# Altium schematic symbol library MCU_NXP_LPC.SchLib: 105 symbols (part 1 of 3)
Pins are listed as number, name and electrical type; pins without a type are passive.

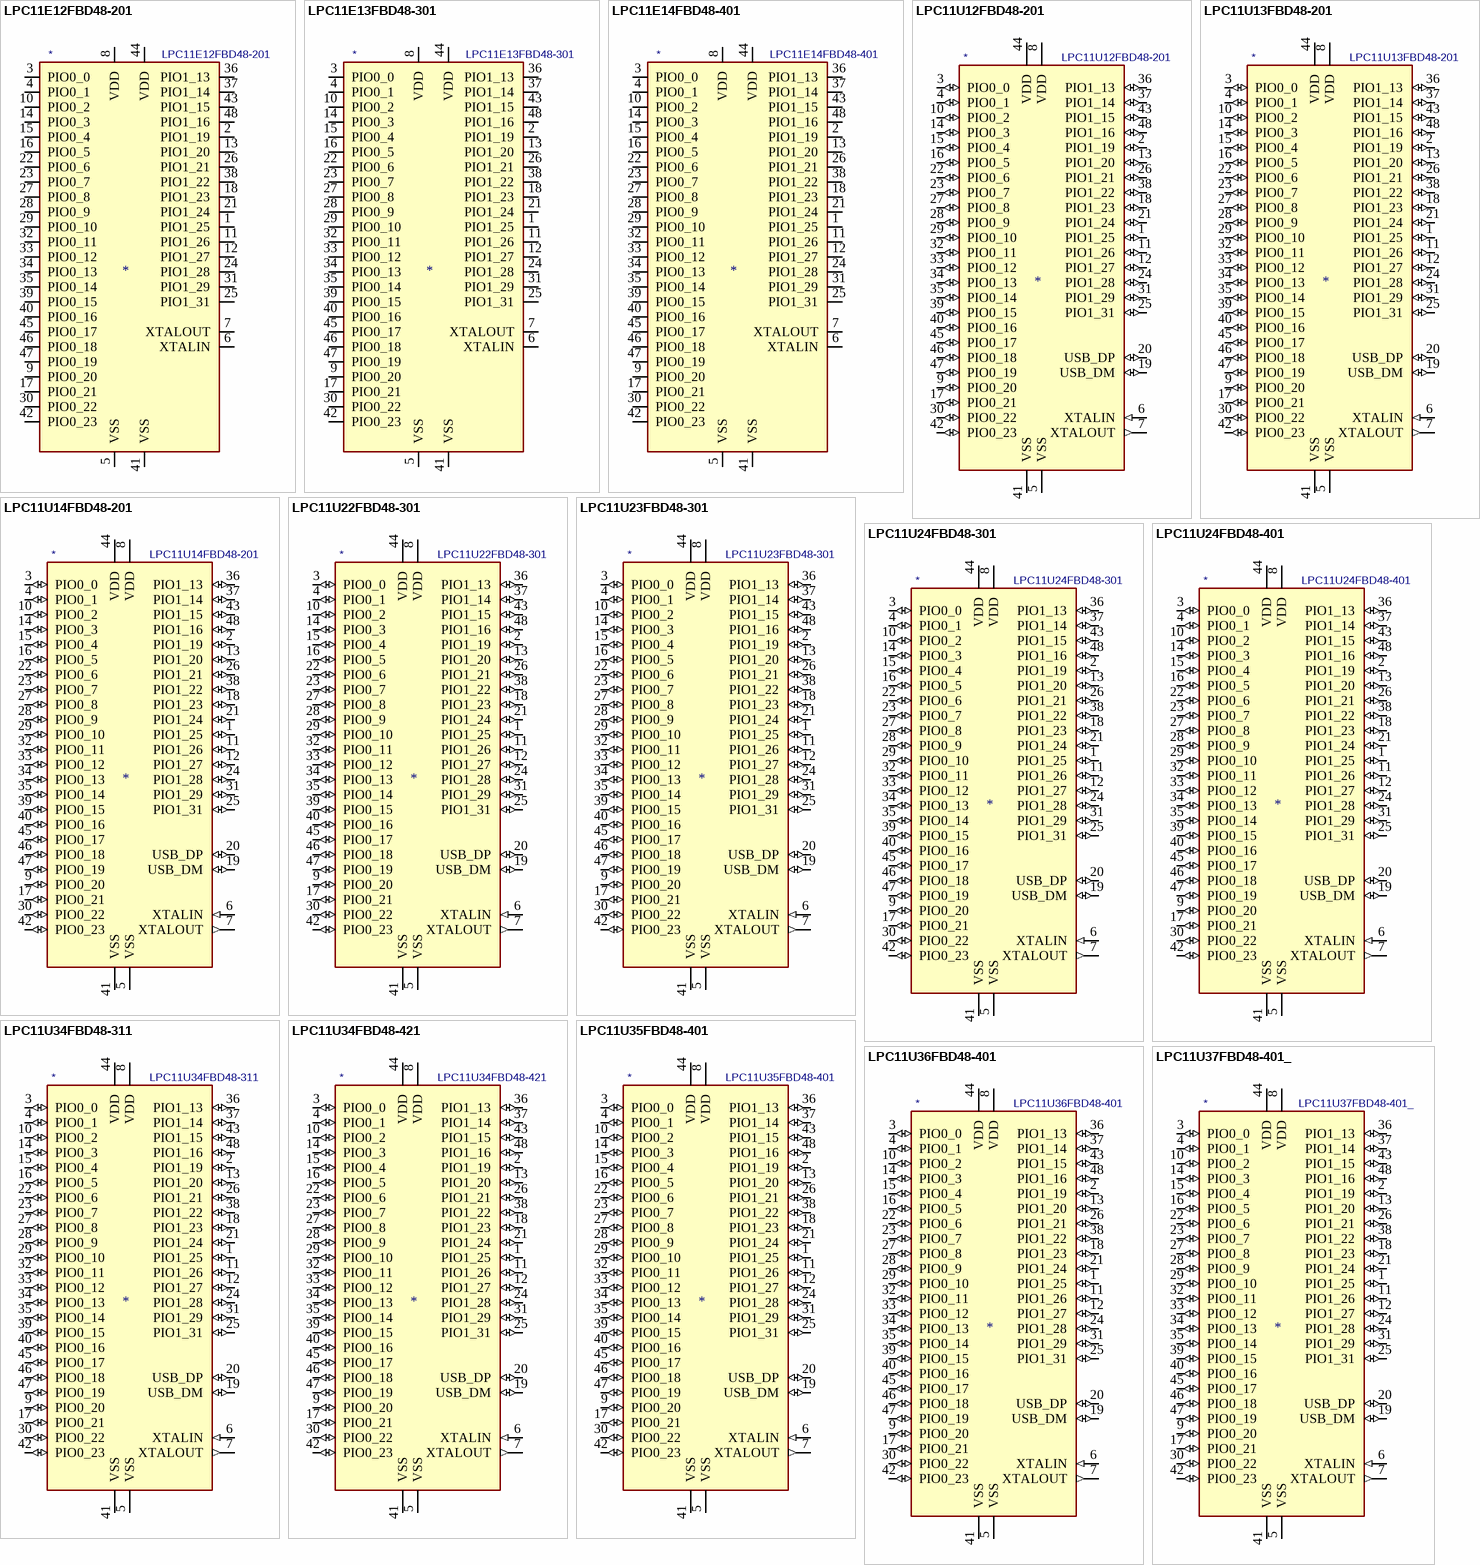
[diagram p0: symbols LPC11E12FBD48-201 to LPC11U37FBD48-401_]

## LPC11E12FBD48-201
designator *  value LPC11E12FBD48-201
ki_keywords: nxp lpc arm microcontroller cortex; ki_description: LPC11E1x, 50MHz Cortex-M0 MCU, 16kB Flash, 1kB EEPROM, 6kB SRAM, USART, I2C, SSP, ADC, Power Profile, LQFP48; ki_fp_filters: *QFP*7x7mm*P0.5mm*; Footprint: Package_QFP:LQFP-48_7x7mm_P0.5mm; Supplier: http://www.nxp.com/documents/data_sheet/LPC11E1X.pdf
footprint LQFP-48_7x7mm_P0.5mm
pins: 1 PIO1_25 (io), 2 PIO1_19 (io), 3 PIO0_0 (io), 4 PIO0_1 (io), 5 VSS (power), 6 XTALIN, 7 XTALOUT, 8 VDD (power), 9 PIO0_20 (io), 10 PIO0_2 (io), 11 PIO1_26 (io), 12 PIO1_27 (io), 13 PIO1_20 (io), 14 PIO0_3 (io), 15 PIO0_4 (oc), 16 PIO0_5 (oc), 17 PIO0_21 (io), 18 PIO1_23 (io), 19 NC (in) hidden, 20 NC (in) hidden, 21 PIO1_24 (io), 22 PIO0_6 (io), 23 PIO0_7 (io), 24 PIO1_28 (io), 25 PIO1_31 (io), 26 PIO1_21 (io), 27 PIO0_8 (io), 28 PIO0_9 (io), 29 PIO0_10 (io), 30 PIO0_22 (io), 31 PIO1_29 (io), 32 PIO0_11 (io), 33 PIO0_12 (io), 34 PIO0_13 (io), 35 PIO0_14 (io), 36 PIO1_13 (io), 37 PIO1_14 (io), 38 PIO1_22 (io), 39 PIO0_15 (io), 40 PIO0_16 (io), 41 VSS (power), 42 PIO0_23 (io), 43 PIO1_15 (io), 44 VDD (power), 45 PIO0_17 (io), 46 PIO0_18 (io), 47 PIO0_19 (io), 48 PIO1_16 (io)

## LPC11E13FBD48-301
designator *  value LPC11E13FBD48-301
ki_keywords: nxp lpc arm microcontroller cortex; ki_description: LPC11E1x, 50MHz Cortex-M0 MCU, 24kB Flash, 2kB EEPROM, 8kB SRAM, USART, I2C, SSP, ADC, Power Profile, LQFP48; ki_fp_filters: *QFP*7x7mm*P0.5mm*; Footprint: Package_QFP:LQFP-48_7x7mm_P0.5mm; Supplier: http://www.nxp.com/documents/data_sheet/LPC11E1X.pdf
footprint LQFP-48_7x7mm_P0.5mm
pins: 1 PIO1_25 (io), 2 PIO1_19 (io), 3 PIO0_0 (io), 4 PIO0_1 (io), 5 VSS (power), 6 XTALIN, 7 XTALOUT, 8 VDD (power), 9 PIO0_20 (io), 10 PIO0_2 (io), 11 PIO1_26 (io), 12 PIO1_27 (io), 13 PIO1_20 (io), 14 PIO0_3 (io), 15 PIO0_4 (oc), 16 PIO0_5 (oc), 17 PIO0_21 (io), 18 PIO1_23 (io), 19 NC (in) hidden, 20 NC (in) hidden, 21 PIO1_24 (io), 22 PIO0_6 (io), 23 PIO0_7 (io), 24 PIO1_28 (io), 25 PIO1_31 (io), 26 PIO1_21 (io), 27 PIO0_8 (io), 28 PIO0_9 (io), 29 PIO0_10 (io), 30 PIO0_22 (io), 31 PIO1_29 (io), 32 PIO0_11 (io), 33 PIO0_12 (io), 34 PIO0_13 (io), 35 PIO0_14 (io), 36 PIO1_13 (io), 37 PIO1_14 (io), 38 PIO1_22 (io), 39 PIO0_15 (io), 40 PIO0_16 (io), 41 VSS (power), 42 PIO0_23 (io), 43 PIO1_15 (io), 44 VDD (power), 45 PIO0_17 (io), 46 PIO0_18 (io), 47 PIO0_19 (io), 48 PIO1_16 (io)

## LPC11E14FBD48-401
designator *  value LPC11E14FBD48-401
ki_keywords: nxp lpc arm microcontroller cortex; ki_description: LPC11U00 USB series, 50MHz Cortex-M0 MCU, USB, ADC, USART, I2C, SPI, LQFP48 package; ki_fp_filters: *QFP*7x7mm*P0.5mm*; Footprint: Package_QFP:LQFP-48_7x7mm_P0.5mm; Supplier: http://www.nxp.com/documents/data_sheet/LPC11U1X.pdf
footprint LQFP-48_7x7mm_P0.5mm
pins: 1 PIO1_25 (io), 2 PIO1_19 (io), 3 PIO0_0 (io), 4 PIO0_1 (io), 5 VSS (power), 6 XTALIN, 7 XTALOUT, 8 VDD (power), 9 PIO0_20 (io), 10 PIO0_2 (io), 11 PIO1_26 (io), 12 PIO1_27 (io), 13 PIO1_20 (io), 14 PIO0_3 (io), 15 PIO0_4 (oc), 16 PIO0_5 (oc), 17 PIO0_21 (io), 18 PIO1_23 (io), 19 NC (in) hidden, 20 NC (in) hidden, 21 PIO1_24 (io), 22 PIO0_6 (io), 23 PIO0_7 (io), 24 PIO1_28 (io), 25 PIO1_31 (io), 26 PIO1_21 (io), 27 PIO0_8 (io), 28 PIO0_9 (io), 29 PIO0_10 (io), 30 PIO0_22 (io), 31 PIO1_29 (io), 32 PIO0_11 (io), 33 PIO0_12 (io), 34 PIO0_13 (io), 35 PIO0_14 (io), 36 PIO1_13 (io), 37 PIO1_14 (io), 38 PIO1_22 (io), 39 PIO0_15 (io), 40 PIO0_16 (io), 41 VSS (power), 42 PIO0_23 (io), 43 PIO1_15 (io), 44 VDD (power), 45 PIO0_17 (io), 46 PIO0_18 (io), 47 PIO0_19 (io), 48 PIO1_16 (io)

## LPC11U12FBD48-201
designator *  value LPC11U12FBD48-201
ki_keywords: ARM, 32-bit, Cortex-M0, M0, NXP, microcontroller; ki_description: 32-bit ARM Cortex-M0 microcontroller, USB, 16KB flash, 6KB SRAM; ki_fp_filters: *QFP*7x7mm*P0.5mm*; Footprint: Package_QFP:LQFP-48_7x7mm_P0.5mm; Supplier: http://www.nxp.com/documents/data_sheet/LPC11U1X.pdf
footprint LQFP-48_7x7mm_P0.5mm
pins: 1 PIO1_25 (io), 2 PIO1_19 (io), 3 PIO0_0 (io), 4 PIO0_1 (io), 5 VSS (power), 6 XTALIN (in), 7 XTALOUT (out), 8 VDD (power), 9 PIO0_20 (io), 10 PIO0_2 (io), 11 PIO1_26 (io), 12 PIO1_27 (io), 13 PIO1_20 (io), 14 PIO0_3 (io), 15 PIO0_4 (io), 16 PIO0_5 (io), 17 PIO0_21 (io), 18 PIO1_23 (io), 19 USB_DM (io), 20 USB_DP (io), 21 PIO1_24 (io), 22 PIO0_6 (io), 23 PIO0_7 (io), 24 PIO1_28 (io), 25 PIO1_31 (io), 26 PIO1_21 (io), 27 PIO0_8 (io), 28 PIO0_9 (io), 29 PIO0_10 (io), 30 PIO0_22 (io), 31 PIO1_29 (io), 32 PIO0_11 (io), 33 PIO0_12 (io), 34 PIO0_13 (io), 35 PIO0_14 (io), 36 PIO1_13 (io), 37 PIO1_14 (io), 38 PIO1_22 (io), 39 PIO0_15 (io), 40 PIO0_16 (io), 41 VSS (power), 42 PIO0_23 (io), 43 PIO1_15 (io), 44 VDD (power), 45 PIO0_17 (io), 46 PIO0_18 (io), 47 PIO0_19 (io), 48 PIO1_16 (io)

## LPC11U13FBD48-201
designator *  value LPC11U13FBD48-201
ki_keywords: ARM, 32-bit, Cortex-M0, M0, NXP, microcontroller; ki_description: 32-bit ARM Cortex-M0 microcontroller, USB, 24KB flash, 6KB SRAM; ki_fp_filters: *QFP*7x7mm*P0.5mm*; Footprint: Package_QFP:LQFP-48_7x7mm_P0.5mm; Supplier: http://www.nxp.com/documents/data_sheet/LPC11U1X.pdf
footprint LQFP-48_7x7mm_P0.5mm
pins: 1 PIO1_25 (io), 2 PIO1_19 (io), 3 PIO0_0 (io), 4 PIO0_1 (io), 5 VSS (power), 6 XTALIN (in), 7 XTALOUT (out), 8 VDD (power), 9 PIO0_20 (io), 10 PIO0_2 (io), 11 PIO1_26 (io), 12 PIO1_27 (io), 13 PIO1_20 (io), 14 PIO0_3 (io), 15 PIO0_4 (io), 16 PIO0_5 (io), 17 PIO0_21 (io), 18 PIO1_23 (io), 19 USB_DM (io), 20 USB_DP (io), 21 PIO1_24 (io), 22 PIO0_6 (io), 23 PIO0_7 (io), 24 PIO1_28 (io), 25 PIO1_31 (io), 26 PIO1_21 (io), 27 PIO0_8 (io), 28 PIO0_9 (io), 29 PIO0_10 (io), 30 PIO0_22 (io), 31 PIO1_29 (io), 32 PIO0_11 (io), 33 PIO0_12 (io), 34 PIO0_13 (io), 35 PIO0_14 (io), 36 PIO1_13 (io), 37 PIO1_14 (io), 38 PIO1_22 (io), 39 PIO0_15 (io), 40 PIO0_16 (io), 41 VSS (power), 42 PIO0_23 (io), 43 PIO1_15 (io), 44 VDD (power), 45 PIO0_17 (io), 46 PIO0_18 (io), 47 PIO0_19 (io), 48 PIO1_16 (io)

## LPC11U14FBD48-201
designator *  value LPC11U14FBD48-201
ki_keywords: ARM, 32-bit, Cortex-M0, M0, NXP, microcontroller; ki_description: 32-bit ARM Cortex-M0 microcontroller, USB, 32KB flash, 6KB SRAM; ki_fp_filters: *QFP*7x7mm*P0.5mm*; Footprint: Package_QFP:LQFP-48_7x7mm_P0.5mm; Supplier: http://www.nxp.com/documents/data_sheet/LPC11U1X.pdf
footprint LQFP-48_7x7mm_P0.5mm
pins: 1 PIO1_25 (io), 2 PIO1_19 (io), 3 PIO0_0 (io), 4 PIO0_1 (io), 5 VSS (power), 6 XTALIN (in), 7 XTALOUT (out), 8 VDD (power), 9 PIO0_20 (io), 10 PIO0_2 (io), 11 PIO1_26 (io), 12 PIO1_27 (io), 13 PIO1_20 (io), 14 PIO0_3 (io), 15 PIO0_4 (io), 16 PIO0_5 (io), 17 PIO0_21 (io), 18 PIO1_23 (io), 19 USB_DM (io), 20 USB_DP (io), 21 PIO1_24 (io), 22 PIO0_6 (io), 23 PIO0_7 (io), 24 PIO1_28 (io), 25 PIO1_31 (io), 26 PIO1_21 (io), 27 PIO0_8 (io), 28 PIO0_9 (io), 29 PIO0_10 (io), 30 PIO0_22 (io), 31 PIO1_29 (io), 32 PIO0_11 (io), 33 PIO0_12 (io), 34 PIO0_13 (io), 35 PIO0_14 (io), 36 PIO1_13 (io), 37 PIO1_14 (io), 38 PIO1_22 (io), 39 PIO0_15 (io), 40 PIO0_16 (io), 41 VSS (power), 42 PIO0_23 (io), 43 PIO1_15 (io), 44 VDD (power), 45 PIO0_17 (io), 46 PIO0_18 (io), 47 PIO0_19 (io), 48 PIO1_16 (io)

## LPC11U22FBD48-301
designator *  value LPC11U22FBD48-301
ki_keywords: ARM, 32-bit, Cortex-M0, M0, NXP, microcontroller; ki_description: 32-bit ARM Cortex-M0 microcontroller, USB, 16KB flash, 8KB SRAM; ki_fp_filters: *QFP*7x7mm*P0.5mm*; Footprint: Package_QFP:LQFP-48_7x7mm_P0.5mm; Supplier: http://www.nxp.com/documents/data_sheet/LPC11U2X.pdf
footprint LQFP-48_7x7mm_P0.5mm
pins: 1 PIO1_25 (io), 2 PIO1_19 (io), 3 PIO0_0 (io), 4 PIO0_1 (io), 5 VSS (power), 6 XTALIN (in), 7 XTALOUT (out), 8 VDD (power), 9 PIO0_20 (io), 10 PIO0_2 (io), 11 PIO1_26 (io), 12 PIO1_27 (io), 13 PIO1_20 (io), 14 PIO0_3 (io), 15 PIO0_4 (io), 16 PIO0_5 (io), 17 PIO0_21 (io), 18 PIO1_23 (io), 19 USB_DM (io), 20 USB_DP (io), 21 PIO1_24 (io), 22 PIO0_6 (io), 23 PIO0_7 (io), 24 PIO1_28 (io), 25 PIO1_31 (io), 26 PIO1_21 (io), 27 PIO0_8 (io), 28 PIO0_9 (io), 29 PIO0_10 (io), 30 PIO0_22 (io), 31 PIO1_29 (io), 32 PIO0_11 (io), 33 PIO0_12 (io), 34 PIO0_13 (io), 35 PIO0_14 (io), 36 PIO1_13 (io), 37 PIO1_14 (io), 38 PIO1_22 (io), 39 PIO0_15 (io), 40 PIO0_16 (io), 41 VSS (power), 42 PIO0_23 (io), 43 PIO1_15 (io), 44 VDD (power), 45 PIO0_17 (io), 46 PIO0_18 (io), 47 PIO0_19 (io), 48 PIO1_16 (io)

## LPC11U23FBD48-301
designator *  value LPC11U23FBD48-301
ki_keywords: ARM, 32-bit, Cortex-M0, M0, NXP, microcontroller; ki_description: 32-bit ARM Cortex-M0 microcontroller, USB, 24KB flash, 8KB SRAM; ki_fp_filters: *QFP*7x7mm*P0.5mm*; Footprint: Package_QFP:LQFP-48_7x7mm_P0.5mm; Supplier: http://www.nxp.com/documents/data_sheet/LPC11U2X.pdf
footprint LQFP-48_7x7mm_P0.5mm
pins: 1 PIO1_25 (io), 2 PIO1_19 (io), 3 PIO0_0 (io), 4 PIO0_1 (io), 5 VSS (power), 6 XTALIN (in), 7 XTALOUT (out), 8 VDD (power), 9 PIO0_20 (io), 10 PIO0_2 (io), 11 PIO1_26 (io), 12 PIO1_27 (io), 13 PIO1_20 (io), 14 PIO0_3 (io), 15 PIO0_4 (io), 16 PIO0_5 (io), 17 PIO0_21 (io), 18 PIO1_23 (io), 19 USB_DM (io), 20 USB_DP (io), 21 PIO1_24 (io), 22 PIO0_6 (io), 23 PIO0_7 (io), 24 PIO1_28 (io), 25 PIO1_31 (io), 26 PIO1_21 (io), 27 PIO0_8 (io), 28 PIO0_9 (io), 29 PIO0_10 (io), 30 PIO0_22 (io), 31 PIO1_29 (io), 32 PIO0_11 (io), 33 PIO0_12 (io), 34 PIO0_13 (io), 35 PIO0_14 (io), 36 PIO1_13 (io), 37 PIO1_14 (io), 38 PIO1_22 (io), 39 PIO0_15 (io), 40 PIO0_16 (io), 41 VSS (power), 42 PIO0_23 (io), 43 PIO1_15 (io), 44 VDD (power), 45 PIO0_17 (io), 46 PIO0_18 (io), 47 PIO0_19 (io), 48 PIO1_16 (io)

## LPC11U24FBD48-301
designator *  value LPC11U24FBD48-301
ki_keywords: ARM, 32-bit, Cortex-M0, M0, NXP, microcontroller; ki_description: 32-bit ARM Cortex-M0 microcontroller, USB, 32KB flash, 8KB SRAM; ki_fp_filters: *QFP*7x7mm*P0.5mm*; Footprint: Package_QFP:LQFP-48_7x7mm_P0.5mm; Supplier: http://www.nxp.com/documents/data_sheet/LPC11U2X.pdf
footprint LQFP-48_7x7mm_P0.5mm
pins: 1 PIO1_25 (io), 2 PIO1_19 (io), 3 PIO0_0 (io), 4 PIO0_1 (io), 5 VSS (power), 6 XTALIN (in), 7 XTALOUT (out), 8 VDD (power), 9 PIO0_20 (io), 10 PIO0_2 (io), 11 PIO1_26 (io), 12 PIO1_27 (io), 13 PIO1_20 (io), 14 PIO0_3 (io), 15 PIO0_4 (io), 16 PIO0_5 (io), 17 PIO0_21 (io), 18 PIO1_23 (io), 19 USB_DM (io), 20 USB_DP (io), 21 PIO1_24 (io), 22 PIO0_6 (io), 23 PIO0_7 (io), 24 PIO1_28 (io), 25 PIO1_31 (io), 26 PIO1_21 (io), 27 PIO0_8 (io), 28 PIO0_9 (io), 29 PIO0_10 (io), 30 PIO0_22 (io), 31 PIO1_29 (io), 32 PIO0_11 (io), 33 PIO0_12 (io), 34 PIO0_13 (io), 35 PIO0_14 (io), 36 PIO1_13 (io), 37 PIO1_14 (io), 38 PIO1_22 (io), 39 PIO0_15 (io), 40 PIO0_16 (io), 41 VSS (power), 42 PIO0_23 (io), 43 PIO1_15 (io), 44 VDD (power), 45 PIO0_17 (io), 46 PIO0_18 (io), 47 PIO0_19 (io), 48 PIO1_16 (io)

## LPC11U24FBD48-401
designator *  value LPC11U24FBD48-401
ki_keywords: ARM, 32-bit, Cortex-M0, M0, NXP, microcontroller; ki_description: 32-bit ARM Cortex-M0 microcontroller, USB, 32KB flash, 10KB SRAM; ki_fp_filters: *QFP*7x7mm*P0.5mm*; Footprint: Package_QFP:LQFP-48_7x7mm_P0.5mm; Supplier: http://www.nxp.com/documents/data_sheet/LPC11U2X.pdf
footprint LQFP-48_7x7mm_P0.5mm
pins: 1 PIO1_25 (io), 2 PIO1_19 (io), 3 PIO0_0 (io), 4 PIO0_1 (io), 5 VSS (power), 6 XTALIN (in), 7 XTALOUT (out), 8 VDD (power), 9 PIO0_20 (io), 10 PIO0_2 (io), 11 PIO1_26 (io), 12 PIO1_27 (io), 13 PIO1_20 (io), 14 PIO0_3 (io), 15 PIO0_4 (io), 16 PIO0_5 (io), 17 PIO0_21 (io), 18 PIO1_23 (io), 19 USB_DM (io), 20 USB_DP (io), 21 PIO1_24 (io), 22 PIO0_6 (io), 23 PIO0_7 (io), 24 PIO1_28 (io), 25 PIO1_31 (io), 26 PIO1_21 (io), 27 PIO0_8 (io), 28 PIO0_9 (io), 29 PIO0_10 (io), 30 PIO0_22 (io), 31 PIO1_29 (io), 32 PIO0_11 (io), 33 PIO0_12 (io), 34 PIO0_13 (io), 35 PIO0_14 (io), 36 PIO1_13 (io), 37 PIO1_14 (io), 38 PIO1_22 (io), 39 PIO0_15 (io), 40 PIO0_16 (io), 41 VSS (power), 42 PIO0_23 (io), 43 PIO1_15 (io), 44 VDD (power), 45 PIO0_17 (io), 46 PIO0_18 (io), 47 PIO0_19 (io), 48 PIO1_16 (io)

## LPC11U34FBD48-311
designator *  value LPC11U34FBD48-311
ki_keywords: ARM, 32-bit, Cortex-M0, M0, NXP, microcontroller; ki_description: 32-bit ARM Cortex-M0 microcontroller, USB, 40KB flash, 8KB SRAM; ki_fp_filters: *QFP*7x7mm*P0.5mm*; Footprint: Package_QFP:LQFP-48_7x7mm_P0.5mm; Supplier: http://www.nxp.com/documents/data_sheet/LPC11U3X.pdf
footprint LQFP-48_7x7mm_P0.5mm
pins: 1 PIO1_25 (io), 2 PIO1_19 (io), 3 PIO0_0 (io), 4 PIO0_1 (io), 5 VSS (power), 6 XTALIN (in), 7 XTALOUT (out), 8 VDD (power), 9 PIO0_20 (io), 10 PIO0_2 (io), 11 PIO1_26 (io), 12 PIO1_27 (io), 13 PIO1_20 (io), 14 PIO0_3 (io), 15 PIO0_4 (io), 16 PIO0_5 (io), 17 PIO0_21 (io), 18 PIO1_23 (io), 19 USB_DM (io), 20 USB_DP (io), 21 PIO1_24 (io), 22 PIO0_6 (io), 23 PIO0_7 (io), 24 PIO1_28 (io), 25 PIO1_31 (io), 26 PIO1_21 (io), 27 PIO0_8 (io), 28 PIO0_9 (io), 29 PIO0_10 (io), 30 PIO0_22 (io), 31 PIO1_29 (io), 32 PIO0_11 (io), 33 PIO0_12 (io), 34 PIO0_13 (io), 35 PIO0_14 (io), 36 PIO1_13 (io), 37 PIO1_14 (io), 38 PIO1_22 (io), 39 PIO0_15 (io), 40 PIO0_16 (io), 41 VSS (power), 42 PIO0_23 (io), 43 PIO1_15 (io), 44 VDD (power), 45 PIO0_17 (io), 46 PIO0_18 (io), 47 PIO0_19 (io), 48 PIO1_16 (io)

## LPC11U34FBD48-421
designator *  value LPC11U34FBD48-421
ki_keywords: ARM, 32-bit, Cortex-M0, M0, NXP, microcontroller; ki_description: 32-bit ARM Cortex-M0 microcontroller, USB, 48KB flash, 10KB SRAM; ki_fp_filters: *QFP*7x7mm*P0.5mm*; Footprint: Package_QFP:LQFP-48_7x7mm_P0.5mm; Supplier: http://www.nxp.com/documents/data_sheet/LPC11U3X.pdf
footprint LQFP-48_7x7mm_P0.5mm
pins: 1 PIO1_25 (io), 2 PIO1_19 (io), 3 PIO0_0 (io), 4 PIO0_1 (io), 5 VSS (power), 6 XTALIN (in), 7 XTALOUT (out), 8 VDD (power), 9 PIO0_20 (io), 10 PIO0_2 (io), 11 PIO1_26 (io), 12 PIO1_27 (io), 13 PIO1_20 (io), 14 PIO0_3 (io), 15 PIO0_4 (io), 16 PIO0_5 (io), 17 PIO0_21 (io), 18 PIO1_23 (io), 19 USB_DM (io), 20 USB_DP (io), 21 PIO1_24 (io), 22 PIO0_6 (io), 23 PIO0_7 (io), 24 PIO1_28 (io), 25 PIO1_31 (io), 26 PIO1_21 (io), 27 PIO0_8 (io), 28 PIO0_9 (io), 29 PIO0_10 (io), 30 PIO0_22 (io), 31 PIO1_29 (io), 32 PIO0_11 (io), 33 PIO0_12 (io), 34 PIO0_13 (io), 35 PIO0_14 (io), 36 PIO1_13 (io), 37 PIO1_14 (io), 38 PIO1_22 (io), 39 PIO0_15 (io), 40 PIO0_16 (io), 41 VSS (power), 42 PIO0_23 (io), 43 PIO1_15 (io), 44 VDD (power), 45 PIO0_17 (io), 46 PIO0_18 (io), 47 PIO0_19 (io), 48 PIO1_16 (io)

## LPC11U35FBD48-401
designator *  value LPC11U35FBD48-401
ki_keywords: ARM, 32-bit, Cortex-M0, M0, NXP, microcontroller; ki_description: 32-bit ARM Cortex-M0 microcontroller, USB, 64KB flash, 10KB SRAM; ki_fp_filters: *QFP*7x7mm*P0.5mm*; Footprint: Package_QFP:LQFP-48_7x7mm_P0.5mm; Supplier: http://www.nxp.com/documents/data_sheet/LPC11U3X.pdf
footprint LQFP-48_7x7mm_P0.5mm
pins: 1 PIO1_25 (io), 2 PIO1_19 (io), 3 PIO0_0 (io), 4 PIO0_1 (io), 5 VSS (power), 6 XTALIN (in), 7 XTALOUT (out), 8 VDD (power), 9 PIO0_20 (io), 10 PIO0_2 (io), 11 PIO1_26 (io), 12 PIO1_27 (io), 13 PIO1_20 (io), 14 PIO0_3 (io), 15 PIO0_4 (io), 16 PIO0_5 (io), 17 PIO0_21 (io), 18 PIO1_23 (io), 19 USB_DM (io), 20 USB_DP (io), 21 PIO1_24 (io), 22 PIO0_6 (io), 23 PIO0_7 (io), 24 PIO1_28 (io), 25 PIO1_31 (io), 26 PIO1_21 (io), 27 PIO0_8 (io), 28 PIO0_9 (io), 29 PIO0_10 (io), 30 PIO0_22 (io), 31 PIO1_29 (io), 32 PIO0_11 (io), 33 PIO0_12 (io), 34 PIO0_13 (io), 35 PIO0_14 (io), 36 PIO1_13 (io), 37 PIO1_14 (io), 38 PIO1_22 (io), 39 PIO0_15 (io), 40 PIO0_16 (io), 41 VSS (power), 42 PIO0_23 (io), 43 PIO1_15 (io), 44 VDD (power), 45 PIO0_17 (io), 46 PIO0_18 (io), 47 PIO0_19 (io), 48 PIO1_16 (io)

## LPC11U36FBD48-401
designator *  value LPC11U36FBD48-401
ki_keywords: ARM, 32-bit, Cortex-M0, M0, NXP, microcontroller; ki_description: 32-bit ARM Cortex-M0 microcontroller, USB, 96KB flash, 10KB SRAM; ki_fp_filters: *QFP*7x7mm*P0.5mm*; Footprint: Package_QFP:LQFP-48_7x7mm_P0.5mm; Supplier: http://www.nxp.com/documents/data_sheet/LPC11U3X.pdf
footprint LQFP-48_7x7mm_P0.5mm
pins: 1 PIO1_25 (io), 2 PIO1_19 (io), 3 PIO0_0 (io), 4 PIO0_1 (io), 5 VSS (power), 6 XTALIN (in), 7 XTALOUT (out), 8 VDD (power), 9 PIO0_20 (io), 10 PIO0_2 (io), 11 PIO1_26 (io), 12 PIO1_27 (io), 13 PIO1_20 (io), 14 PIO0_3 (io), 15 PIO0_4 (io), 16 PIO0_5 (io), 17 PIO0_21 (io), 18 PIO1_23 (io), 19 USB_DM (io), 20 USB_DP (io), 21 PIO1_24 (io), 22 PIO0_6 (io), 23 PIO0_7 (io), 24 PIO1_28 (io), 25 PIO1_31 (io), 26 PIO1_21 (io), 27 PIO0_8 (io), 28 PIO0_9 (io), 29 PIO0_10 (io), 30 PIO0_22 (io), 31 PIO1_29 (io), 32 PIO0_11 (io), 33 PIO0_12 (io), 34 PIO0_13 (io), 35 PIO0_14 (io), 36 PIO1_13 (io), 37 PIO1_14 (io), 38 PIO1_22 (io), 39 PIO0_15 (io), 40 PIO0_16 (io), 41 VSS (power), 42 PIO0_23 (io), 43 PIO1_15 (io), 44 VDD (power), 45 PIO0_17 (io), 46 PIO0_18 (io), 47 PIO0_19 (io), 48 PIO1_16 (io)

## LPC11U37FBD48-401_
designator *  value LPC11U37FBD48-401_
ki_keywords: ARM, 32-bit, Cortex-M0, M0, NXP, microcontroller; ki_description: 32-bit ARM Cortex-M0 microcontroller, USB, 128KB flash, 10KB SRAM; ki_fp_filters: *QFP*7x7mm*P0.5mm*; Footprint: Package_QFP:LQFP-48_7x7mm_P0.5mm; Supplier: http://www.nxp.com/documents/data_sheet/LPC11U3X.pdf
footprint LQFP-48_7x7mm_P0.5mm
pins: 1 PIO1_25 (io), 2 PIO1_19 (io), 3 PIO0_0 (io), 4 PIO0_1 (io), 5 VSS (power), 6 XTALIN (in), 7 XTALOUT (out), 8 VDD (power), 9 PIO0_20 (io), 10 PIO0_2 (io), 11 PIO1_26 (io), 12 PIO1_27 (io), 13 PIO1_20 (io), 14 PIO0_3 (io), 15 PIO0_4 (io), 16 PIO0_5 (io), 17 PIO0_21 (io), 18 PIO1_23 (io), 19 USB_DM (io), 20 USB_DP (io), 21 PIO1_24 (io), 22 PIO0_6 (io), 23 PIO0_7 (io), 24 PIO1_28 (io), 25 PIO1_31 (io), 26 PIO1_21 (io), 27 PIO0_8 (io), 28 PIO0_9 (io), 29 PIO0_10 (io), 30 PIO0_22 (io), 31 PIO1_29 (io), 32 PIO0_11 (io), 33 PIO0_12 (io), 34 PIO0_13 (io), 35 PIO0_14 (io), 36 PIO1_13 (io), 37 PIO1_14 (io), 38 PIO1_22 (io), 39 PIO0_15 (io), 40 PIO0_16 (io), 41 VSS (power), 42 PIO0_23 (io), 43 PIO1_15 (io), 44 VDD (power), 45 PIO0_17 (io), 46 PIO0_18 (io), 47 PIO0_19 (io), 48 PIO1_16 (io)

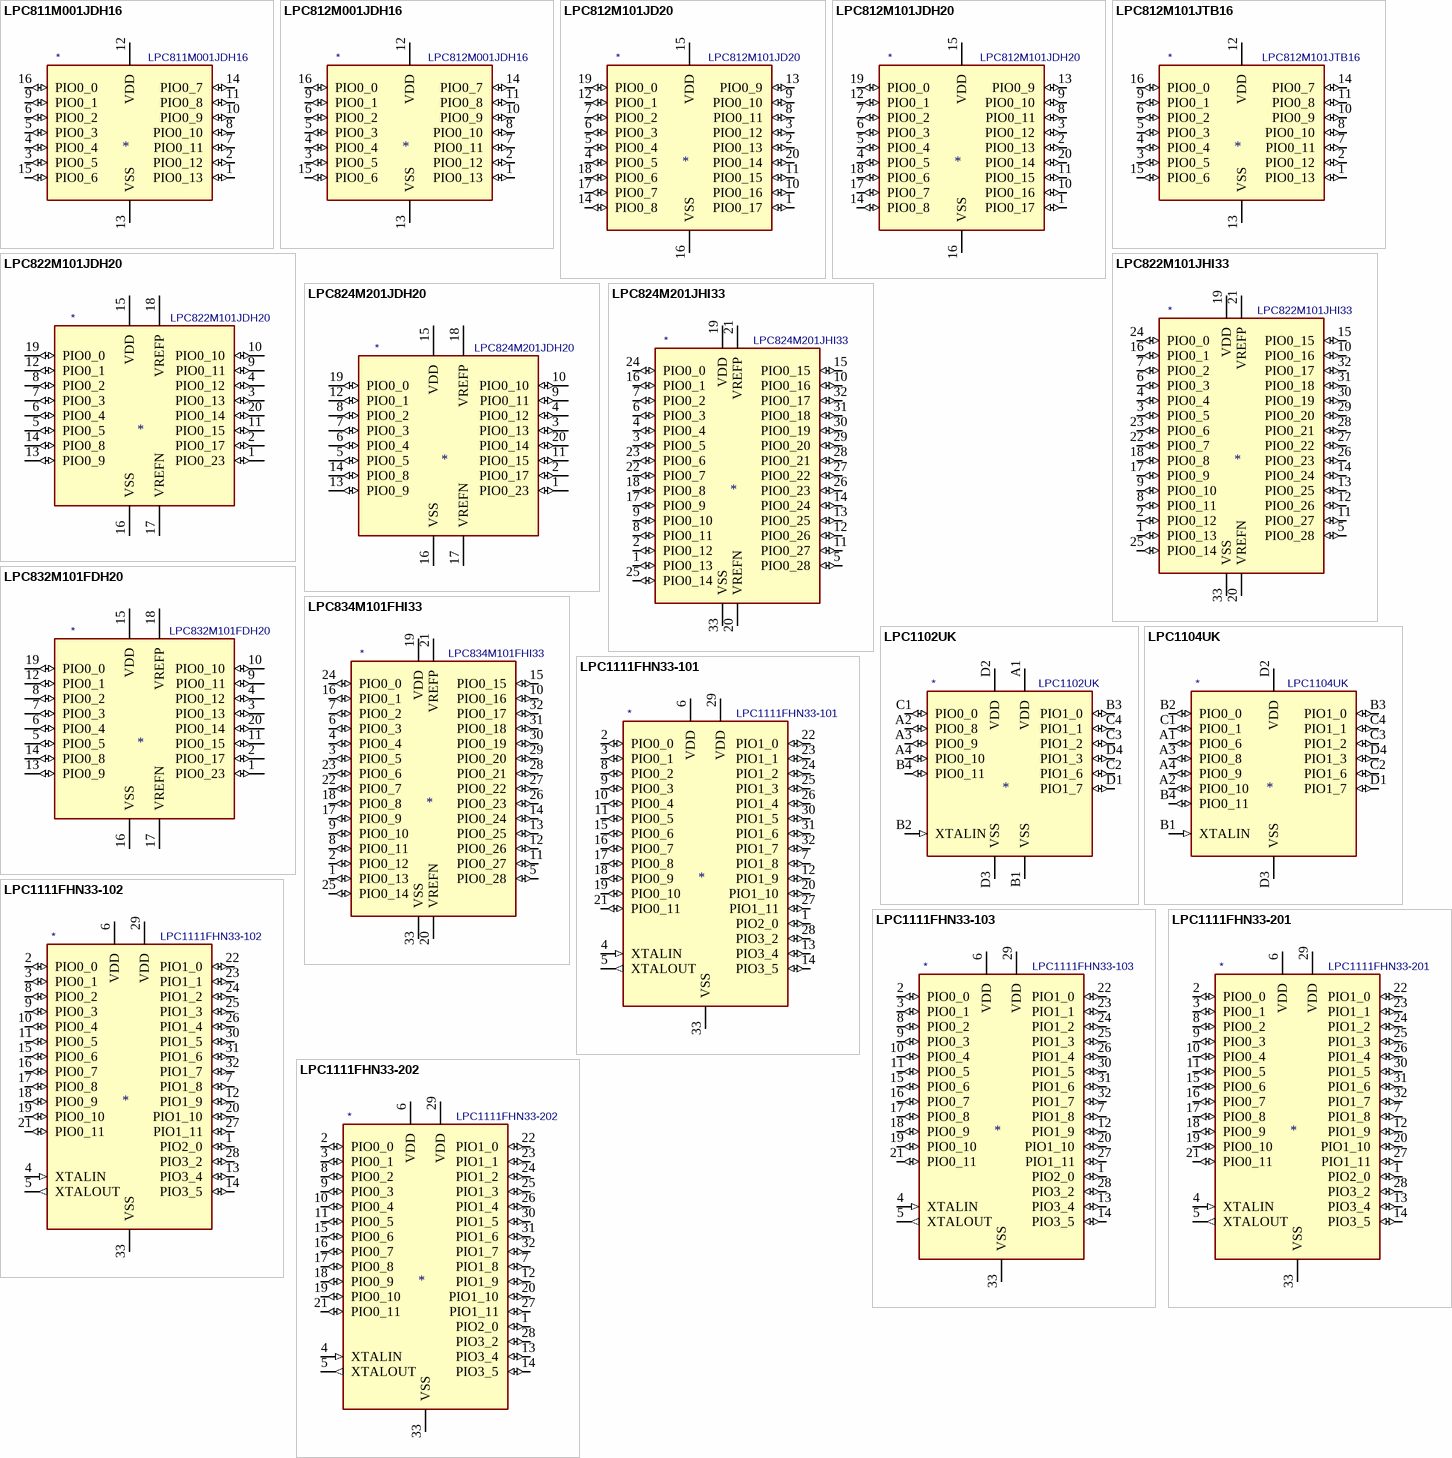
[diagram p1: symbols LPC811M001JDH16 to LPC1111FHN33-202]

## LPC811M001JDH16
designator *  value LPC811M001JDH16
ki_keywords: ARM, 32-bit, Cortex-M0, M0, NXP, microcontroller; ki_description: 32-bit ARM Cortex-M0 microcontroller, 8kB flash, 2kB SRAM; ki_fp_filters: *TSSOP*4.4x5mm*P0.65mm*; Footprint: Package_SO:TSSOP-16_4.4x5mm_P0.65mm; Supplier: http://www.nxp.com/documents/data_sheet/LPC81XM.pdf
footprint TSSOP-16_4.4x5mm_P0.65mm
pins: 1 PIO0_13 (io), 2 PIO0_12 (io), 3 PIO0_5 (io), 4 PIO0_4 (io), 5 PIO0_3 (io), 6 PIO0_2 (io), 7 PIO0_11 (io), 8 PIO0_10 (io), 9 PIO0_1 (io), 10 PIO0_9 (io), 11 PIO0_8 (io), 12 VDD (power), 13 VSS (power), 14 PIO0_7 (io), 15 PIO0_6 (io), 16 PIO0_0 (io)

## LPC812M001JDH16
designator *  value LPC812M001JDH16
ki_keywords: ARM, 32-bit, Cortex-M0, M0, NXP, microcontroller; ki_description: 32-bit ARM Cortex-M0 microcontroller, 16kB flash, 4kB SRAM; ki_fp_filters: *TSSOP*4.4x5mm*P0.65mm*; Footprint: Package_SO:TSSOP-16_4.4x5mm_P0.65mm; Supplier: http://www.nxp.com/documents/data_sheet/LPC81XM.pdf
footprint TSSOP-16_4.4x5mm_P0.65mm
pins: 1 PIO0_13 (io), 2 PIO0_12 (io), 3 PIO0_5 (io), 4 PIO0_4 (io), 5 PIO0_3 (io), 6 PIO0_2 (io), 7 PIO0_11 (io), 8 PIO0_10 (io), 9 PIO0_1 (io), 10 PIO0_9 (io), 11 PIO0_8 (io), 12 VDD (power), 13 VSS (power), 14 PIO0_7 (io), 15 PIO0_6 (io), 16 PIO0_0 (io)

## LPC812M101JD20
designator *  value LPC812M101JD20
ki_keywords: ARM, 32-bit, Cortex-M0, M0, NXP, microcontroller; ki_description: 32-bit ARM Cortex-M0 microcontroller, 16kB flash, 4kB SRAM; ki_fp_filters: *SOIC*7.5x12.8mm*P1.27mm*; Footprint: Package_SO:SOIC-20W_7.5x12.8mm_P1.27mm; Supplier: http://www.nxp.com/documents/data_sheet/LPC81XM.pdf
footprint SOIC-20W_7.5x12.8mm_P1.27mm
pins: 1 PIO0_17 (io), 2 PIO0_13 (io), 3 PIO0_12 (io), 4 PIO0_5 (io), 5 PIO0_4 (io), 6 PIO0_3 (io), 7 PIO0_2 (io), 8 PIO0_11 (io), 9 PIO0_10 (io), 10 PIO0_16 (io), 11 PIO0_15 (io), 12 PIO0_1 (io), 13 PIO0_9 (io), 14 PIO0_8 (io), 15 VDD (power), 16 VSS (power), 17 PIO0_7 (io), 18 PIO0_6 (io), 19 PIO0_0 (io), 20 PIO0_14 (io)

## LPC812M101JDH20
designator *  value LPC812M101JDH20
ki_keywords: ARM, 32-bit, Cortex-M0, M0, NXP, microcontroller; ki_description: 32-bit ARM Cortex-M0 microcontroller, 16kB flash, 4kB SRAM; ki_fp_filters: *TSSOP*4.4x6.5mm*P0.65mm*; Footprint: Package_SO:TSSOP-20_4.4x6.5mm_P0.65mm; Supplier: http://www.nxp.com/documents/data_sheet/LPC81XM.pdf
footprint TSSOP-20_4.4x6.5mm_P0.65mm
pins: 1 PIO0_17 (io), 2 PIO0_13 (io), 3 PIO0_12 (io), 4 PIO0_5 (io), 5 PIO0_4 (io), 6 PIO0_3 (io), 7 PIO0_2 (io), 8 PIO0_11 (io), 9 PIO0_10 (io), 10 PIO0_16 (io), 11 PIO0_15 (io), 12 PIO0_1 (io), 13 PIO0_9 (io), 14 PIO0_8 (io), 15 VDD (power), 16 VSS (power), 17 PIO0_7 (io), 18 PIO0_6 (io), 19 PIO0_0 (io), 20 PIO0_14 (io)

## LPC812M101JTB16
designator *  value LPC812M101JTB16
ki_keywords: ARM, 32-bit, Cortex-M0, M0, NXP, microcontroller; ki_description: 32-bit ARM Cortex-M0 microcontroller, 16kB flash, 4kB SRAM; ki_fp_filters: NXP*XSON*; Footprint: Package_SON:NXP_XSON-16; Supplier: http://www.nxp.com/documents/data_sheet/LPC81XM.pdf
footprint NXP_XSON-16
pins: 1 PIO0_13 (io), 2 PIO0_12 (io), 3 PIO0_5 (io), 4 PIO0_4 (io), 5 PIO0_3 (io), 6 PIO0_2 (io), 7 PIO0_11 (io), 8 PIO0_10 (io), 9 PIO0_1 (io), 10 PIO0_9 (io), 11 PIO0_8 (io), 12 VDD (power), 13 VSS (power), 14 PIO0_7 (io), 15 PIO0_6 (io), 16 PIO0_0 (io)

## LPC822M101JDH20
designator *  value LPC822M101JDH20
ki_keywords: ARM, 32-bit, Cortex-M0, M0, NXP, microcontroller; ki_description: 32-bit ARM Cortex-M0 microcontroller, 16kB flash, 4kB SRAM; ki_fp_filters: *TSSOP*4.4x6.5mm*P0.65mm*; Footprint: Package_SO:TSSOP-20_4.4x6.5mm_P0.65mm; Supplier: http://www.nxp.com/documents/data_sheet/LPC82X.pdf
footprint TSSOP-20_4.4x6.5mm_P0.65mm
pins: 1 PIO0_23 (io), 2 PIO0_17 (io), 3 PIO0_13 (io), 4 PIO0_12 (io), 5 PIO0_5 (io), 6 PIO0_4 (io), 7 PIO0_3 (io), 8 PIO0_2 (io), 9 PIO0_11 (io), 10 PIO0_10 (io), 11 PIO0_15 (io), 12 PIO0_1 (io), 13 PIO0_9 (io), 14 PIO0_8 (io), 15 VDD (power), 16 VSS (power), 17 VREFN (power), 18 VREFP (power), 19 PIO0_0 (io), 20 PIO0_14 (io)

## LPC822M101JHI33
designator *  value LPC822M101JHI33
ki_keywords: ARM, 32-bit, Cortex-M0, M0, NXP, microcontroller; ki_description: 32-bit ARM Cortex-M0 microcontroller, 16kB flash, 4kB SRAM; ki_fp_filters: *QFN*5x5mm*P0.5mm*; Footprint: Package_DFN_QFN:QFN-32-1EP_5x5mm_P0.5mm_EP3.45x3.45mm; Supplier: http://www.nxp.com/documents/data_sheet/LPC82X.pdf
footprint QFN-32-1EP_5x5mm_P0.5mm_EP3.45x3.45mm
pins: 1 PIO0_13 (io), 2 PIO0_12 (io), 3 PIO0_5 (io), 4 PIO0_4 (io), 5 PIO0_28 (io), 6 PIO0_3 (io), 7 PIO0_2 (io), 8 PIO0_11 (io), 9 PIO0_10 (io), 10 PIO0_16 (io), 11 PIO0_27 (io), 12 PIO0_26 (io), 13 PIO0_25 (io), 14 PIO0_24 (io), 15 PIO0_15 (io), 16 PIO0_1 (io), 17 PIO0_9 (io), 18 PIO0_8 (io), 19 VDD (power), 20 VREFN (power), 21 VREFP (power), 22 PIO0_7 (io), 23 PIO0_6 (io), 24 PIO0_0 (io), 25 PIO0_14 (io), 26 PIO0_23 (io), 27 PIO0_22 (io), 28 PIO0_21 (io), 29 PIO0_20 (io), 30 PIO0_19 (io), 31 PIO0_18 (io), 32 PIO0_17 (io), 33 VSS (power)

## LPC824M201JDH20
designator *  value LPC824M201JDH20
ki_keywords: ARM, 32-bit, Cortex-M0, M0, NXP, microcontroller; ki_description: 32-bit ARM Cortex-M0 microcontroller, 32kB flash, 8kB SRAM; ki_fp_filters: *TSSOP*4.4x6.5mm*P0.65mm*; Footprint: Package_SO:TSSOP-20_4.4x6.5mm_P0.65mm; Supplier: http://www.nxp.com/documents/data_sheet/LPC82X.pdf
footprint TSSOP-20_4.4x6.5mm_P0.65mm
pins: 1 PIO0_23 (io), 2 PIO0_17 (io), 3 PIO0_13 (io), 4 PIO0_12 (io), 5 PIO0_5 (io), 6 PIO0_4 (io), 7 PIO0_3 (io), 8 PIO0_2 (io), 9 PIO0_11 (io), 10 PIO0_10 (io), 11 PIO0_15 (io), 12 PIO0_1 (io), 13 PIO0_9 (io), 14 PIO0_8 (io), 15 VDD (power), 16 VSS (power), 17 VREFN (power), 18 VREFP (power), 19 PIO0_0 (io), 20 PIO0_14 (io)

## LPC824M201JHI33
designator *  value LPC824M201JHI33
ki_keywords: ARM, 32-bit, Cortex-M0, M0, NXP, microcontroller; ki_description: 32-bit ARM Cortex-M0 microcontroller, 32kB flash, 8kB SRAM; ki_fp_filters: *QFN*5x5mm*P0.5mm*; Footprint: Package_DFN_QFN:QFN-32-1EP_5x5mm_P0.5mm_EP3.45x3.45mm; Supplier: http://www.nxp.com/documents/data_sheet/LPC82X.pdf
footprint QFN-32-1EP_5x5mm_P0.5mm_EP3.45x3.45mm
pins: 1 PIO0_13 (io), 2 PIO0_12 (io), 3 PIO0_5 (io), 4 PIO0_4 (io), 5 PIO0_28 (io), 6 PIO0_3 (io), 7 PIO0_2 (io), 8 PIO0_11 (io), 9 PIO0_10 (io), 10 PIO0_16 (io), 11 PIO0_27 (io), 12 PIO0_26 (io), 13 PIO0_25 (io), 14 PIO0_24 (io), 15 PIO0_15 (io), 16 PIO0_1 (io), 17 PIO0_9 (io), 18 PIO0_8 (io), 19 VDD (power), 20 VREFN (power), 21 VREFP (power), 22 PIO0_7 (io), 23 PIO0_6 (io), 24 PIO0_0 (io), 25 PIO0_14 (io), 26 PIO0_23 (io), 27 PIO0_22 (io), 28 PIO0_21 (io), 29 PIO0_20 (io), 30 PIO0_19 (io), 31 PIO0_18 (io), 32 PIO0_17 (io), 33 VSS (power)

## LPC832M101FDH20
designator *  value LPC832M101FDH20
ki_keywords: ARM, 32-bit, Cortex-M0, M0, NXP, microcontroller; ki_description: 32-bit ARM Cortex-M0 microcontroller, 16kB flash, 4kB SRAM; ki_fp_filters: *TSSOP*4.4x6.5mm*P0.65mm*; Footprint: Package_SO:TSSOP-20_4.4x6.5mm_P0.65mm; Supplier: http://www.nxp.com/documents/data_sheet/LPC83X.pdf
footprint TSSOP-20_4.4x6.5mm_P0.65mm
pins: 1 PIO0_23 (io), 2 PIO0_17 (io), 3 PIO0_13 (io), 4 PIO0_12 (io), 5 PIO0_5 (io), 6 PIO0_4 (io), 7 PIO0_3 (io), 8 PIO0_2 (io), 9 PIO0_11 (io), 10 PIO0_10 (io), 11 PIO0_15 (io), 12 PIO0_1 (io), 13 PIO0_9 (io), 14 PIO0_8 (io), 15 VDD (power), 16 VSS (power), 17 VREFN (power), 18 VREFP (power), 19 PIO0_0 (io), 20 PIO0_14 (io)

## LPC834M101FHI33
designator *  value LPC834M101FHI33
ki_keywords: ARM, 32-bit, Cortex-M0, M0, NXP, microcontroller; ki_description: 32-bit ARM Cortex-M0 microcontroller, 32kB flash, 4kB SRAM; ki_fp_filters: *QFN*5x5mm*P0.5mm*; Footprint: Package_DFN_QFN:QFN-32-1EP_5x5mm_P0.5mm_EP3.45x3.45mm; Supplier: http://www.nxp.com/documents/data_sheet/LPC83X.pdf
footprint QFN-32-1EP_5x5mm_P0.5mm_EP3.45x3.45mm
pins: 1 PIO0_13 (io), 2 PIO0_12 (io), 3 PIO0_5 (io), 4 PIO0_4 (io), 5 PIO0_28 (io), 6 PIO0_3 (io), 7 PIO0_2 (io), 8 PIO0_11 (io), 9 PIO0_10 (io), 10 PIO0_16 (io), 11 PIO0_27 (io), 12 PIO0_26 (io), 13 PIO0_25 (io), 14 PIO0_24 (io), 15 PIO0_15 (io), 16 PIO0_1 (io), 17 PIO0_9 (io), 18 PIO0_8 (io), 19 VDD (power), 20 VREFN (power), 21 VREFP (power), 22 PIO0_7 (io), 23 PIO0_6 (io), 24 PIO0_0 (io), 25 PIO0_14 (io), 26 PIO0_23 (io), 27 PIO0_22 (io), 28 PIO0_21 (io), 29 PIO0_20 (io), 30 PIO0_19 (io), 31 PIO0_18 (io), 32 PIO0_17 (io), 33 VSS (power)

## LPC1102UK
designator *  value LPC1102UK
ki_keywords: ARM, 32-bit, Cortex-M0, M0, NXP, microcontroller; ki_description: 32-bit ARM Cortex-M0 microcontroller, 32kB flash, 8kB SRAM; ki_fp_filters: WLCSP*4x4*B2.17x2.32mm*P0.5mm*; Footprint: Package_CSP:WLCSP-16_4x4_B2.17x2.32mm_P0.5mm; Supplier: http://www.nxp.com/documents/data_sheet/LPC1102_1104.pdf
footprint WLCSP-16_4x4_B2.17x2.32mm_P0.5mm
pins: A1 VDD (power), A2 PIO0_8 (io), A3 PIO0_9 (io), A4 PIO0_10 (io), B1 VSS (power), B2 XTALIN (in), B3 PIO1_0 (io), B4 PIO0_11 (io), C1 PIO0_0 (io), C2 PIO1_6 (io), C3 PIO1_2 (io), C4 PIO1_1 (io), D1 PIO1_7 (io), D2 VDD (power), D3 VSS (power), D4 PIO1_3 (io)

## LPC1104UK
designator *  value LPC1104UK
ki_keywords: ARM, 32-bit, Cortex-M0, M0, NXP, microcontroller; ki_description: 32-bit ARM Cortex-M0 microcontroller, 32kB flash, 8kB SRAM; ki_fp_filters: WLCSP*4x4*B2.17x2.32mm*P0.5mm*; Footprint: Package_CSP:WLCSP-16_4x4_B2.17x2.32mm_P0.5mm; Supplier: http://www.nxp.com/documents/data_sheet/LPC1102_1104.pdf
footprint WLCSP-16_4x4_B2.17x2.32mm_P0.5mm
pins: A1 PIO0_6 (io), A2 PIO0_10 (io), A3 PIO0_8 (io), A4 PIO0_9 (io), B1 XTALIN (in), B2 PIO0_0 (io), B3 PIO1_0 (io), B4 PIO0_11 (io), C1 PIO0_1 (io), C2 PIO1_6 (io), C3 PIO1_2 (io), C4 PIO1_1 (io), D1 PIO1_7 (io), D2 VDD (power), D3 VSS (power), D4 PIO1_3 (io)

## LPC1111FHN33-101
designator *  value LPC1111FHN33-101
ki_keywords: ARM, 32-bit, Cortex-M0, M0, NXP, microcontroller; ki_description: 32-bit ARM Cortex-M0 microcontroller, 8KB flash, 2KB SRAM; ki_fp_filters: *QFN*7x7mm*P0.65mm*; Footprint: Package_DFN_QFN:QFN-32-1EP_7x7mm_P0.65mm_EP4.7x4.7mm_ThermalVias; Supplier: https://www.nxp.com/documents/data_sheet/LPC111X.pdf
footprint QFN-32-1EP_7x7mm_P0.65mm_EP4.7x4.7mm_ThermalVias
pins: 1 PIO2_0 (io), 2 PIO0_0 (io), 3 PIO0_1 (io), 4 XTALIN (in), 5 XTALOUT (out), 6 VDD (power), 7 PIO1_8 (io), 8 PIO0_2 (io), 9 PIO0_3 (io), 10 PIO0_4 (io), 11 PIO0_5 (io), 12 PIO1_9 (io), 13 PIO3_4 (io), 14 PIO3_5 (io), 15 PIO0_6 (io), 16 PIO0_7 (io), 17 PIO0_8 (io), 18 PIO0_9 (io), 19 PIO0_10 (io), 20 PIO1_10 (io), 21 PIO0_11 (io), 22 PIO1_0 (io), 23 PIO1_1 (io), 24 PIO1_2 (io), 25 PIO1_3 (io), 26 PIO1_4 (io), 27 PIO1_11 (io), 28 PIO3_2 (io), 29 VDD (power), 30 PIO1_5 (io), 31 PIO1_6 (io), 32 PIO1_7 (io), 33 VSS (power)

## LPC1111FHN33-102
designator *  value LPC1111FHN33-102
ki_keywords: ARM, 32-bit, Cortex-M0, M0, NXP, microcontroller; ki_description: 32-bit ARM Cortex-M0 microcontroller, 8KB flash, 2KB SRAM, power profile; ki_fp_filters: *QFN*7x7mm*P0.65mm*; Footprint: Package_DFN_QFN:QFN-32-1EP_7x7mm_P0.65mm_EP4.7x4.7mm_ThermalVias; Supplier: https://www.nxp.com/documents/data_sheet/LPC111X.pdf
footprint QFN-32-1EP_7x7mm_P0.65mm_EP4.7x4.7mm_ThermalVias
pins: 1 PIO2_0 (io), 2 PIO0_0 (io), 3 PIO0_1 (io), 4 XTALIN (in), 5 XTALOUT (out), 6 VDD (power), 7 PIO1_8 (io), 8 PIO0_2 (io), 9 PIO0_3 (io), 10 PIO0_4 (io), 11 PIO0_5 (io), 12 PIO1_9 (io), 13 PIO3_4 (io), 14 PIO3_5 (io), 15 PIO0_6 (io), 16 PIO0_7 (io), 17 PIO0_8 (io), 18 PIO0_9 (io), 19 PIO0_10 (io), 20 PIO1_10 (io), 21 PIO0_11 (io), 22 PIO1_0 (io), 23 PIO1_1 (io), 24 PIO1_2 (io), 25 PIO1_3 (io), 26 PIO1_4 (io), 27 PIO1_11 (io), 28 PIO3_2 (io), 29 VDD (power), 30 PIO1_5 (io), 31 PIO1_6 (io), 32 PIO1_7 (io), 33 VSS (power)

## LPC1111FHN33-103
designator *  value LPC1111FHN33-103
ki_keywords: ARM, 32-bit, Cortex-M0, M0, NXP, microcontroller; ki_description: 32-bit ARM Cortex-M0 microcontroller, 8KB flash, 2KB SRAM; ki_fp_filters: *QFN*7x7mm*P0.65mm*; Footprint: Package_DFN_QFN:QFN-32-1EP_7x7mm_P0.65mm_EP4.7x4.7mm_ThermalVias; Supplier: https://www.nxp.com/documents/data_sheet/LPC111X.pdf
footprint QFN-32-1EP_7x7mm_P0.65mm_EP4.7x4.7mm_ThermalVias
pins: 1 PIO2_0 (io), 2 PIO0_0 (io), 3 PIO0_1 (io), 4 XTALIN (in), 5 XTALOUT (out), 6 VDD (power), 7 PIO1_8 (io), 8 PIO0_2 (io), 9 PIO0_3 (io), 10 PIO0_4 (io), 11 PIO0_5 (io), 12 PIO1_9 (io), 13 PIO3_4 (io), 14 PIO3_5 (io), 15 PIO0_6 (io), 16 PIO0_7 (io), 17 PIO0_8 (io), 18 PIO0_9 (io), 19 PIO0_10 (io), 20 PIO1_10 (io), 21 PIO0_11 (io), 22 PIO1_0 (io), 23 PIO1_1 (io), 24 PIO1_2 (io), 25 PIO1_3 (io), 26 PIO1_4 (io), 27 PIO1_11 (io), 28 PIO3_2 (io), 29 VDD (power), 30 PIO1_5 (io), 31 PIO1_6 (io), 32 PIO1_7 (io), 33 VSS (power)

## LPC1111FHN33-201
designator *  value LPC1111FHN33-201
ki_keywords: ARM, 32-bit, Cortex-M0, M0, NXP, microcontroller; ki_description: 32-bit ARM Cortex-M0 microcontroller, 8KB flash, 4KB SRAM; ki_fp_filters: *QFN*7x7mm*P0.65mm*; Footprint: Package_DFN_QFN:QFN-32-1EP_7x7mm_P0.65mm_EP4.7x4.7mm_ThermalVias; Supplier: https://www.nxp.com/documents/data_sheet/LPC111X.pdf
footprint QFN-32-1EP_7x7mm_P0.65mm_EP4.7x4.7mm_ThermalVias
pins: 1 PIO2_0 (io), 2 PIO0_0 (io), 3 PIO0_1 (io), 4 XTALIN (in), 5 XTALOUT (out), 6 VDD (power), 7 PIO1_8 (io), 8 PIO0_2 (io), 9 PIO0_3 (io), 10 PIO0_4 (io), 11 PIO0_5 (io), 12 PIO1_9 (io), 13 PIO3_4 (io), 14 PIO3_5 (io), 15 PIO0_6 (io), 16 PIO0_7 (io), 17 PIO0_8 (io), 18 PIO0_9 (io), 19 PIO0_10 (io), 20 PIO1_10 (io), 21 PIO0_11 (io), 22 PIO1_0 (io), 23 PIO1_1 (io), 24 PIO1_2 (io), 25 PIO1_3 (io), 26 PIO1_4 (io), 27 PIO1_11 (io), 28 PIO3_2 (io), 29 VDD (power), 30 PIO1_5 (io), 31 PIO1_6 (io), 32 PIO1_7 (io), 33 VSS (power)

## LPC1111FHN33-202
designator *  value LPC1111FHN33-202
ki_keywords: ARM, 32-bit, Cortex-M0, M0, NXP, microcontroller; ki_description: 32-bit ARM Cortex-M0 microcontroller, 8KB flash, 4KB SRAM, power profile; ki_fp_filters: *QFN*7x7mm*P0.65mm*; Footprint: Package_DFN_QFN:QFN-32-1EP_7x7mm_P0.65mm_EP4.7x4.7mm_ThermalVias; Supplier: https://www.nxp.com/documents/data_sheet/LPC111X.pdf
footprint QFN-32-1EP_7x7mm_P0.65mm_EP4.7x4.7mm_ThermalVias
pins: 1 PIO2_0 (io), 2 PIO0_0 (io), 3 PIO0_1 (io), 4 XTALIN (in), 5 XTALOUT (out), 6 VDD (power), 7 PIO1_8 (io), 8 PIO0_2 (io), 9 PIO0_3 (io), 10 PIO0_4 (io), 11 PIO0_5 (io), 12 PIO1_9 (io), 13 PIO3_4 (io), 14 PIO3_5 (io), 15 PIO0_6 (io), 16 PIO0_7 (io), 17 PIO0_8 (io), 18 PIO0_9 (io), 19 PIO0_10 (io), 20 PIO1_10 (io), 21 PIO0_11 (io), 22 PIO1_0 (io), 23 PIO1_1 (io), 24 PIO1_2 (io), 25 PIO1_3 (io), 26 PIO1_4 (io), 27 PIO1_11 (io), 28 PIO3_2 (io), 29 VDD (power), 30 PIO1_5 (io), 31 PIO1_6 (io), 32 PIO1_7 (io), 33 VSS (power)

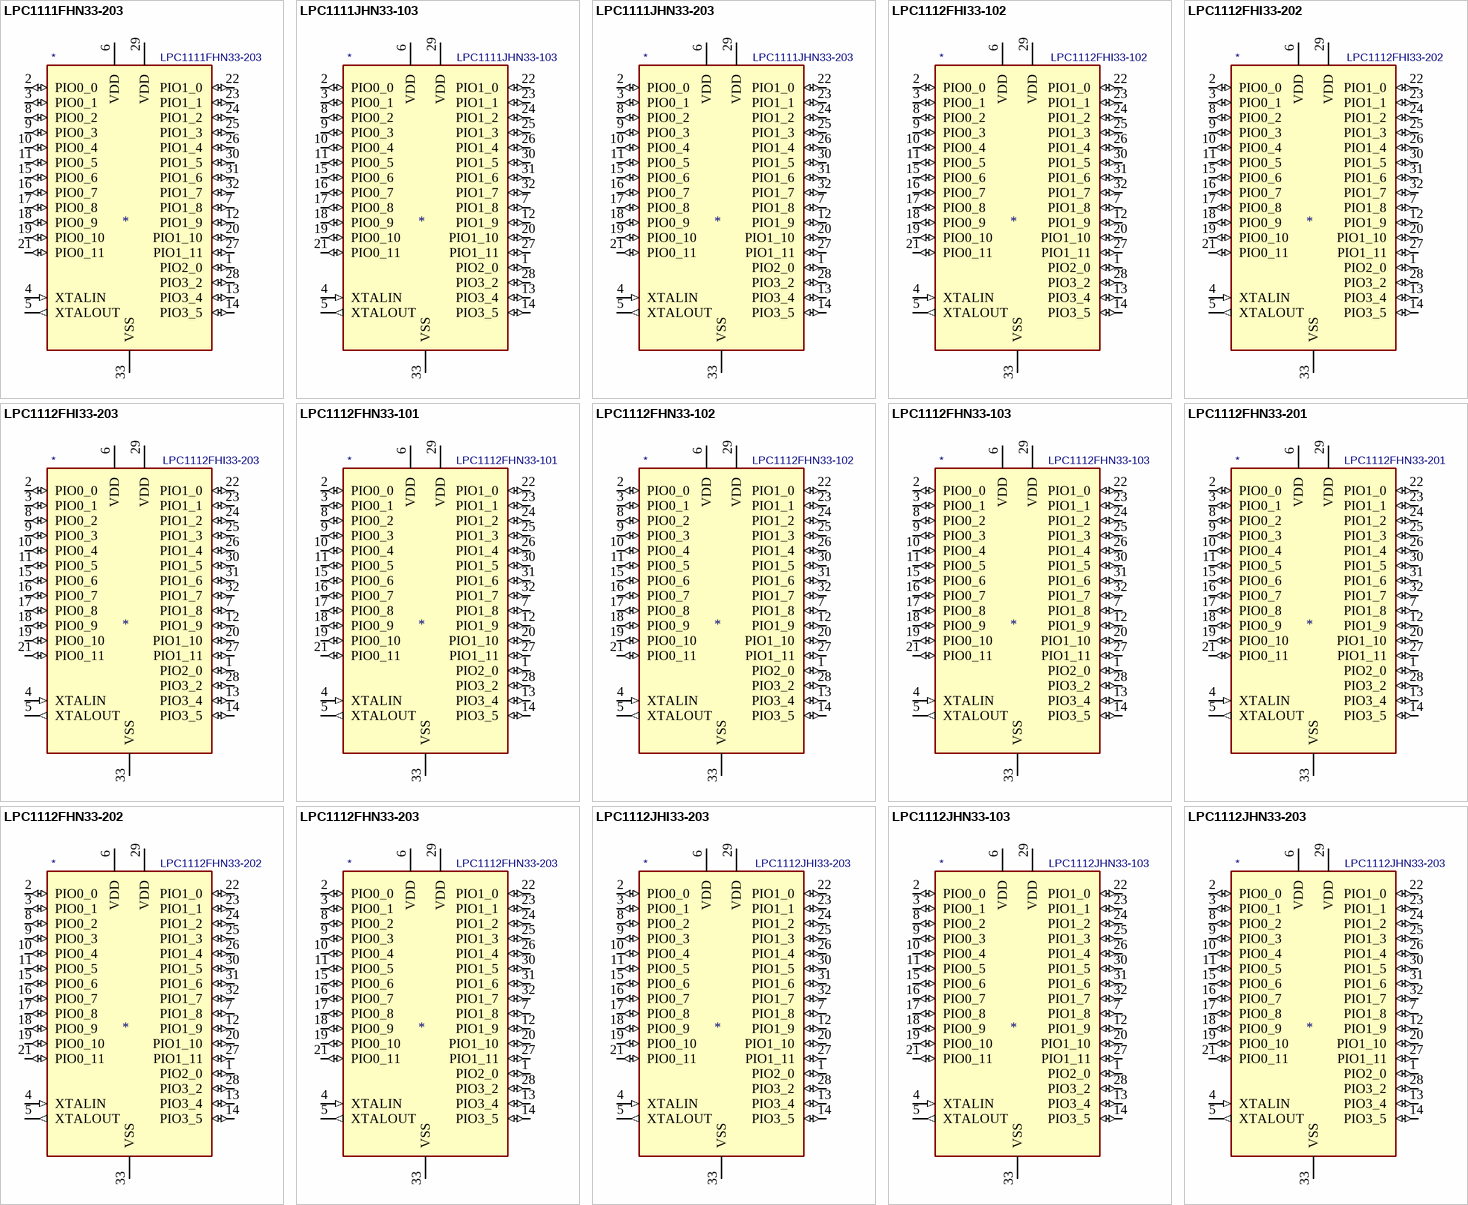
[diagram p2: symbols LPC1111FHN33-203 to LPC1112JHN33-203]

## LPC1111FHN33-203
designator *  value LPC1111FHN33-203
ki_keywords: ARM, 32-bit, Cortex-M0, M0, NXP, microcontroller; ki_description: 32-bit ARM Cortex-M0 microcontroller, 8KB flash, 4KB SRAM; ki_fp_filters: *QFN*7x7mm*P0.65mm*; Footprint: Package_DFN_QFN:QFN-32-1EP_7x7mm_P0.65mm_EP4.7x4.7mm_ThermalVias; Supplier: https://www.nxp.com/documents/data_sheet/LPC111X.pdf
footprint QFN-32-1EP_7x7mm_P0.65mm_EP4.7x4.7mm_ThermalVias
pins: 1 PIO2_0 (io), 2 PIO0_0 (io), 3 PIO0_1 (io), 4 XTALIN (in), 5 XTALOUT (out), 6 VDD (power), 7 PIO1_8 (io), 8 PIO0_2 (io), 9 PIO0_3 (io), 10 PIO0_4 (io), 11 PIO0_5 (io), 12 PIO1_9 (io), 13 PIO3_4 (io), 14 PIO3_5 (io), 15 PIO0_6 (io), 16 PIO0_7 (io), 17 PIO0_8 (io), 18 PIO0_9 (io), 19 PIO0_10 (io), 20 PIO1_10 (io), 21 PIO0_11 (io), 22 PIO1_0 (io), 23 PIO1_1 (io), 24 PIO1_2 (io), 25 PIO1_3 (io), 26 PIO1_4 (io), 27 PIO1_11 (io), 28 PIO3_2 (io), 29 VDD (power), 30 PIO1_5 (io), 31 PIO1_6 (io), 32 PIO1_7 (io), 33 VSS (power)

## LPC1111JHN33-103
designator *  value LPC1111JHN33-103
ki_keywords: ARM, 32-bit, Cortex-M0, M0, NXP, microcontroller; ki_description: 32-bit ARM Cortex-M0 microcontroller, 8KB flash, 2KB SRAM; ki_fp_filters: *QFN*7x7mm*P0.65mm*; Footprint: Package_DFN_QFN:QFN-32-1EP_7x7mm_P0.65mm_EP4.7x4.7mm_ThermalVias; Supplier: https://www.nxp.com/documents/data_sheet/LPC111X.pdf
footprint QFN-32-1EP_7x7mm_P0.65mm_EP4.7x4.7mm_ThermalVias
pins: 1 PIO2_0 (io), 2 PIO0_0 (io), 3 PIO0_1 (io), 4 XTALIN (in), 5 XTALOUT (out), 6 VDD (power), 7 PIO1_8 (io), 8 PIO0_2 (io), 9 PIO0_3 (io), 10 PIO0_4 (io), 11 PIO0_5 (io), 12 PIO1_9 (io), 13 PIO3_4 (io), 14 PIO3_5 (io), 15 PIO0_6 (io), 16 PIO0_7 (io), 17 PIO0_8 (io), 18 PIO0_9 (io), 19 PIO0_10 (io), 20 PIO1_10 (io), 21 PIO0_11 (io), 22 PIO1_0 (io), 23 PIO1_1 (io), 24 PIO1_2 (io), 25 PIO1_3 (io), 26 PIO1_4 (io), 27 PIO1_11 (io), 28 PIO3_2 (io), 29 VDD (power), 30 PIO1_5 (io), 31 PIO1_6 (io), 32 PIO1_7 (io), 33 VSS (power)

## LPC1111JHN33-203
designator *  value LPC1111JHN33-203
ki_keywords: ARM, 32-bit, Cortex-M0, M0, NXP, microcontroller; ki_description: 32-bit ARM Cortex-M0 microcontroller, 8KB flash, 4KB SRAM; ki_fp_filters: *QFN*7x7mm*P0.65mm*; Footprint: Package_DFN_QFN:QFN-32-1EP_7x7mm_P0.65mm_EP4.7x4.7mm_ThermalVias; Supplier: https://www.nxp.com/documents/data_sheet/LPC111X.pdf
footprint QFN-32-1EP_7x7mm_P0.65mm_EP4.7x4.7mm_ThermalVias
pins: 1 PIO2_0 (io), 2 PIO0_0 (io), 3 PIO0_1 (io), 4 XTALIN (in), 5 XTALOUT (out), 6 VDD (power), 7 PIO1_8 (io), 8 PIO0_2 (io), 9 PIO0_3 (io), 10 PIO0_4 (io), 11 PIO0_5 (io), 12 PIO1_9 (io), 13 PIO3_4 (io), 14 PIO3_5 (io), 15 PIO0_6 (io), 16 PIO0_7 (io), 17 PIO0_8 (io), 18 PIO0_9 (io), 19 PIO0_10 (io), 20 PIO1_10 (io), 21 PIO0_11 (io), 22 PIO1_0 (io), 23 PIO1_1 (io), 24 PIO1_2 (io), 25 PIO1_3 (io), 26 PIO1_4 (io), 27 PIO1_11 (io), 28 PIO3_2 (io), 29 VDD (power), 30 PIO1_5 (io), 31 PIO1_6 (io), 32 PIO1_7 (io), 33 VSS (power)

## LPC1112FHI33-102
designator *  value LPC1112FHI33-102
ki_keywords: ARM, 32-bit, Cortex-M0, M0, NXP, microcontroller; ki_description: 32-bit ARM Cortex-M0 microcontroller, 16KB flash, 2KB SRAM, power profile; ki_fp_filters: *QFN*5x5mm*P0.5mm*; Footprint: Package_DFN_QFN:QFN-32-1EP_5x5mm_P0.5mm_EP3.45x3.45mm; Supplier: https://www.nxp.com/documents/data_sheet/LPC111X.pdf
footprint QFN-32-1EP_5x5mm_P0.5mm_EP3.45x3.45mm
pins: 1 PIO2_0 (io), 2 PIO0_0 (io), 3 PIO0_1 (io), 4 XTALIN (in), 5 XTALOUT (out), 6 VDD (power), 7 PIO1_8 (io), 8 PIO0_2 (io), 9 PIO0_3 (io), 10 PIO0_4 (io), 11 PIO0_5 (io), 12 PIO1_9 (io), 13 PIO3_4 (io), 14 PIO3_5 (io), 15 PIO0_6 (io), 16 PIO0_7 (io), 17 PIO0_8 (io), 18 PIO0_9 (io), 19 PIO0_10 (io), 20 PIO1_10 (io), 21 PIO0_11 (io), 22 PIO1_0 (io), 23 PIO1_1 (io), 24 PIO1_2 (io), 25 PIO1_3 (io), 26 PIO1_4 (io), 27 PIO1_11 (io), 28 PIO3_2 (io), 29 VDD (power), 30 PIO1_5 (io), 31 PIO1_6 (io), 32 PIO1_7 (io), 33 VSS (power)

## LPC1112FHI33-202
designator *  value LPC1112FHI33-202
ki_keywords: ARM, 32-bit, Cortex-M0, M0, NXP, microcontroller; ki_description: 32-bit ARM Cortex-M0 microcontroller, 16KB flash, 4KB SRAM, power profile; ki_fp_filters: *QFN*5x5mm*P0.5mm*; Footprint: Package_DFN_QFN:QFN-32-1EP_5x5mm_P0.5mm_EP3.45x3.45mm; Supplier: https://www.nxp.com/documents/data_sheet/LPC111X.pdf
footprint QFN-32-1EP_5x5mm_P0.5mm_EP3.45x3.45mm
pins: 1 PIO2_0 (io), 2 PIO0_0 (io), 3 PIO0_1 (io), 4 XTALIN (in), 5 XTALOUT (out), 6 VDD (power), 7 PIO1_8 (io), 8 PIO0_2 (io), 9 PIO0_3 (io), 10 PIO0_4 (io), 11 PIO0_5 (io), 12 PIO1_9 (io), 13 PIO3_4 (io), 14 PIO3_5 (io), 15 PIO0_6 (io), 16 PIO0_7 (io), 17 PIO0_8 (io), 18 PIO0_9 (io), 19 PIO0_10 (io), 20 PIO1_10 (io), 21 PIO0_11 (io), 22 PIO1_0 (io), 23 PIO1_1 (io), 24 PIO1_2 (io), 25 PIO1_3 (io), 26 PIO1_4 (io), 27 PIO1_11 (io), 28 PIO3_2 (io), 29 VDD (power), 30 PIO1_5 (io), 31 PIO1_6 (io), 32 PIO1_7 (io), 33 VSS (power)

## LPC1112FHI33-203
designator *  value LPC1112FHI33-203
ki_keywords: ARM, 32-bit, Cortex-M0, M0, NXP, microcontroller; ki_description: 32-bit ARM Cortex-M0 microcontroller, 16KB flash, 4KB SRAM, power profile; ki_fp_filters: *QFN*5x5mm*P0.5mm*; Footprint: Package_DFN_QFN:QFN-32-1EP_5x5mm_P0.5mm_EP3.45x3.45mm; Supplier: https://www.nxp.com/documents/data_sheet/LPC111X.pdf
footprint QFN-32-1EP_5x5mm_P0.5mm_EP3.45x3.45mm
pins: 1 PIO2_0 (io), 2 PIO0_0 (io), 3 PIO0_1 (io), 4 XTALIN (in), 5 XTALOUT (out), 6 VDD (power), 7 PIO1_8 (io), 8 PIO0_2 (io), 9 PIO0_3 (io), 10 PIO0_4 (io), 11 PIO0_5 (io), 12 PIO1_9 (io), 13 PIO3_4 (io), 14 PIO3_5 (io), 15 PIO0_6 (io), 16 PIO0_7 (io), 17 PIO0_8 (io), 18 PIO0_9 (io), 19 PIO0_10 (io), 20 PIO1_10 (io), 21 PIO0_11 (io), 22 PIO1_0 (io), 23 PIO1_1 (io), 24 PIO1_2 (io), 25 PIO1_3 (io), 26 PIO1_4 (io), 27 PIO1_11 (io), 28 PIO3_2 (io), 29 VDD (power), 30 PIO1_5 (io), 31 PIO1_6 (io), 32 PIO1_7 (io), 33 VSS (power)

## LPC1112FHN33-101
designator *  value LPC1112FHN33-101
ki_keywords: ARM, 32-bit, Cortex-M0, M0, NXP, microcontroller; ki_description: 32-bit ARM Cortex-M0 microcontroller, 16KB flash, 2KB SRAM; ki_fp_filters: *QFN*7x7mm*P0.65mm*; Footprint: Package_DFN_QFN:QFN-32-1EP_7x7mm_P0.65mm_EP4.7x4.7mm_ThermalVias; Supplier: https://www.nxp.com/documents/data_sheet/LPC111X.pdf
footprint QFN-32-1EP_7x7mm_P0.65mm_EP4.7x4.7mm_ThermalVias
pins: 1 PIO2_0 (io), 2 PIO0_0 (io), 3 PIO0_1 (io), 4 XTALIN (in), 5 XTALOUT (out), 6 VDD (power), 7 PIO1_8 (io), 8 PIO0_2 (io), 9 PIO0_3 (io), 10 PIO0_4 (io), 11 PIO0_5 (io), 12 PIO1_9 (io), 13 PIO3_4 (io), 14 PIO3_5 (io), 15 PIO0_6 (io), 16 PIO0_7 (io), 17 PIO0_8 (io), 18 PIO0_9 (io), 19 PIO0_10 (io), 20 PIO1_10 (io), 21 PIO0_11 (io), 22 PIO1_0 (io), 23 PIO1_1 (io), 24 PIO1_2 (io), 25 PIO1_3 (io), 26 PIO1_4 (io), 27 PIO1_11 (io), 28 PIO3_2 (io), 29 VDD (power), 30 PIO1_5 (io), 31 PIO1_6 (io), 32 PIO1_7 (io), 33 VSS (power)

## LPC1112FHN33-102
designator *  value LPC1112FHN33-102
ki_keywords: ARM, 32-bit, Cortex-M0, M0, NXP, microcontroller; ki_description: 32-bit ARM Cortex-M0 microcontroller, 16KB flash, 2KB SRAM, power profile; ki_fp_filters: *QFN*7x7mm*P0.65mm*; Footprint: Package_DFN_QFN:QFN-32-1EP_7x7mm_P0.65mm_EP4.7x4.7mm_ThermalVias; Supplier: https://www.nxp.com/documents/data_sheet/LPC111X.pdf
footprint QFN-32-1EP_7x7mm_P0.65mm_EP4.7x4.7mm_ThermalVias
pins: 1 PIO2_0 (io), 2 PIO0_0 (io), 3 PIO0_1 (io), 4 XTALIN (in), 5 XTALOUT (out), 6 VDD (power), 7 PIO1_8 (io), 8 PIO0_2 (io), 9 PIO0_3 (io), 10 PIO0_4 (io), 11 PIO0_5 (io), 12 PIO1_9 (io), 13 PIO3_4 (io), 14 PIO3_5 (io), 15 PIO0_6 (io), 16 PIO0_7 (io), 17 PIO0_8 (io), 18 PIO0_9 (io), 19 PIO0_10 (io), 20 PIO1_10 (io), 21 PIO0_11 (io), 22 PIO1_0 (io), 23 PIO1_1 (io), 24 PIO1_2 (io), 25 PIO1_3 (io), 26 PIO1_4 (io), 27 PIO1_11 (io), 28 PIO3_2 (io), 29 VDD (power), 30 PIO1_5 (io), 31 PIO1_6 (io), 32 PIO1_7 (io), 33 VSS (power)

## LPC1112FHN33-103
designator *  value LPC1112FHN33-103
ki_keywords: ARM, 32-bit, Cortex-M0, M0, NXP, microcontroller; ki_description: 32-bit ARM Cortex-M0 microcontroller, 16KB flash, 2KB SRAM; ki_fp_filters: *QFN*7x7mm*P0.65mm*; Footprint: Package_DFN_QFN:QFN-32-1EP_7x7mm_P0.65mm_EP4.7x4.7mm_ThermalVias; Supplier: https://www.nxp.com/documents/data_sheet/LPC111X.pdf
footprint QFN-32-1EP_7x7mm_P0.65mm_EP4.7x4.7mm_ThermalVias
pins: 1 PIO2_0 (io), 2 PIO0_0 (io), 3 PIO0_1 (io), 4 XTALIN (in), 5 XTALOUT (out), 6 VDD (power), 7 PIO1_8 (io), 8 PIO0_2 (io), 9 PIO0_3 (io), 10 PIO0_4 (io), 11 PIO0_5 (io), 12 PIO1_9 (io), 13 PIO3_4 (io), 14 PIO3_5 (io), 15 PIO0_6 (io), 16 PIO0_7 (io), 17 PIO0_8 (io), 18 PIO0_9 (io), 19 PIO0_10 (io), 20 PIO1_10 (io), 21 PIO0_11 (io), 22 PIO1_0 (io), 23 PIO1_1 (io), 24 PIO1_2 (io), 25 PIO1_3 (io), 26 PIO1_4 (io), 27 PIO1_11 (io), 28 PIO3_2 (io), 29 VDD (power), 30 PIO1_5 (io), 31 PIO1_6 (io), 32 PIO1_7 (io), 33 VSS (power)

## LPC1112FHN33-201
designator *  value LPC1112FHN33-201
ki_keywords: ARM, 32-bit, Cortex-M0, M0, NXP, microcontroller; ki_description: 32-bit ARM Cortex-M0 microcontroller, 16KB flash, 4KB SRAM; ki_fp_filters: *QFN*7x7mm*P0.65mm*; Footprint: Package_DFN_QFN:QFN-32-1EP_7x7mm_P0.65mm_EP4.7x4.7mm_ThermalVias; Supplier: https://www.nxp.com/documents/data_sheet/LPC111X.pdf
footprint QFN-32-1EP_7x7mm_P0.65mm_EP4.7x4.7mm_ThermalVias
pins: 1 PIO2_0 (io), 2 PIO0_0 (io), 3 PIO0_1 (io), 4 XTALIN (in), 5 XTALOUT (out), 6 VDD (power), 7 PIO1_8 (io), 8 PIO0_2 (io), 9 PIO0_3 (io), 10 PIO0_4 (io), 11 PIO0_5 (io), 12 PIO1_9 (io), 13 PIO3_4 (io), 14 PIO3_5 (io), 15 PIO0_6 (io), 16 PIO0_7 (io), 17 PIO0_8 (io), 18 PIO0_9 (io), 19 PIO0_10 (io), 20 PIO1_10 (io), 21 PIO0_11 (io), 22 PIO1_0 (io), 23 PIO1_1 (io), 24 PIO1_2 (io), 25 PIO1_3 (io), 26 PIO1_4 (io), 27 PIO1_11 (io), 28 PIO3_2 (io), 29 VDD (power), 30 PIO1_5 (io), 31 PIO1_6 (io), 32 PIO1_7 (io), 33 VSS (power)

## LPC1112FHN33-202
designator *  value LPC1112FHN33-202
ki_keywords: ARM, 32-bit, Cortex-M0, M0, NXP, microcontroller; ki_description: 32-bit ARM Cortex-M0 microcontroller, 16KB flash, 4KB SRAM, power profile; ki_fp_filters: *QFN*7x7mm*P0.65mm*; Footprint: Package_DFN_QFN:QFN-32-1EP_7x7mm_P0.65mm_EP4.7x4.7mm_ThermalVias; Supplier: https://www.nxp.com/documents/data_sheet/LPC111X.pdf
footprint QFN-32-1EP_7x7mm_P0.65mm_EP4.7x4.7mm_ThermalVias
pins: 1 PIO2_0 (io), 2 PIO0_0 (io), 3 PIO0_1 (io), 4 XTALIN (in), 5 XTALOUT (out), 6 VDD (power), 7 PIO1_8 (io), 8 PIO0_2 (io), 9 PIO0_3 (io), 10 PIO0_4 (io), 11 PIO0_5 (io), 12 PIO1_9 (io), 13 PIO3_4 (io), 14 PIO3_5 (io), 15 PIO0_6 (io), 16 PIO0_7 (io), 17 PIO0_8 (io), 18 PIO0_9 (io), 19 PIO0_10 (io), 20 PIO1_10 (io), 21 PIO0_11 (io), 22 PIO1_0 (io), 23 PIO1_1 (io), 24 PIO1_2 (io), 25 PIO1_3 (io), 26 PIO1_4 (io), 27 PIO1_11 (io), 28 PIO3_2 (io), 29 VDD (power), 30 PIO1_5 (io), 31 PIO1_6 (io), 32 PIO1_7 (io), 33 VSS (power)

## LPC1112FHN33-203
designator *  value LPC1112FHN33-203
ki_keywords: ARM, 32-bit, Cortex-M0, M0, NXP, microcontroller; ki_description: 32-bit ARM Cortex-M0 microcontroller, 16KB flash, 4KB SRAM; ki_fp_filters: *QFN*7x7mm*P0.65mm*; Footprint: Package_DFN_QFN:QFN-32-1EP_7x7mm_P0.65mm_EP4.7x4.7mm_ThermalVias; Supplier: https://www.nxp.com/documents/data_sheet/LPC111X.pdf
footprint QFN-32-1EP_7x7mm_P0.65mm_EP4.7x4.7mm_ThermalVias
pins: 1 PIO2_0 (io), 2 PIO0_0 (io), 3 PIO0_1 (io), 4 XTALIN (in), 5 XTALOUT (out), 6 VDD (power), 7 PIO1_8 (io), 8 PIO0_2 (io), 9 PIO0_3 (io), 10 PIO0_4 (io), 11 PIO0_5 (io), 12 PIO1_9 (io), 13 PIO3_4 (io), 14 PIO3_5 (io), 15 PIO0_6 (io), 16 PIO0_7 (io), 17 PIO0_8 (io), 18 PIO0_9 (io), 19 PIO0_10 (io), 20 PIO1_10 (io), 21 PIO0_11 (io), 22 PIO1_0 (io), 23 PIO1_1 (io), 24 PIO1_2 (io), 25 PIO1_3 (io), 26 PIO1_4 (io), 27 PIO1_11 (io), 28 PIO3_2 (io), 29 VDD (power), 30 PIO1_5 (io), 31 PIO1_6 (io), 32 PIO1_7 (io), 33 VSS (power)

## LPC1112JHI33-203
designator *  value LPC1112JHI33-203
ki_keywords: ARM, 32-bit, Cortex-M0, M0, NXP, microcontroller; ki_description: 32-bit ARM Cortex-M0 microcontroller, 16KB flash, 4KB SRAM, power profile; ki_fp_filters: *QFN*5x5mm*P0.5mm*; Footprint: Package_DFN_QFN:QFN-32-1EP_5x5mm_P0.5mm_EP3.45x3.45mm; Supplier: https://www.nxp.com/documents/data_sheet/LPC111X.pdf
footprint QFN-32-1EP_5x5mm_P0.5mm_EP3.45x3.45mm
pins: 1 PIO2_0 (io), 2 PIO0_0 (io), 3 PIO0_1 (io), 4 XTALIN (in), 5 XTALOUT (out), 6 VDD (power), 7 PIO1_8 (io), 8 PIO0_2 (io), 9 PIO0_3 (io), 10 PIO0_4 (io), 11 PIO0_5 (io), 12 PIO1_9 (io), 13 PIO3_4 (io), 14 PIO3_5 (io), 15 PIO0_6 (io), 16 PIO0_7 (io), 17 PIO0_8 (io), 18 PIO0_9 (io), 19 PIO0_10 (io), 20 PIO1_10 (io), 21 PIO0_11 (io), 22 PIO1_0 (io), 23 PIO1_1 (io), 24 PIO1_2 (io), 25 PIO1_3 (io), 26 PIO1_4 (io), 27 PIO1_11 (io), 28 PIO3_2 (io), 29 VDD (power), 30 PIO1_5 (io), 31 PIO1_6 (io), 32 PIO1_7 (io), 33 VSS (power)

## LPC1112JHN33-103
designator *  value LPC1112JHN33-103
ki_keywords: ARM, 32-bit, Cortex-M0, M0, NXP, microcontroller; ki_description: 32-bit ARM Cortex-M0 microcontroller, 16KB flash, 2KB SRAM; ki_fp_filters: *QFN*7x7mm*P0.65mm*; Footprint: Package_DFN_QFN:QFN-32-1EP_7x7mm_P0.65mm_EP4.7x4.7mm_ThermalVias; Supplier: https://www.nxp.com/documents/data_sheet/LPC111X.pdf
footprint QFN-32-1EP_7x7mm_P0.65mm_EP4.7x4.7mm_ThermalVias
pins: 1 PIO2_0 (io), 2 PIO0_0 (io), 3 PIO0_1 (io), 4 XTALIN (in), 5 XTALOUT (out), 6 VDD (power), 7 PIO1_8 (io), 8 PIO0_2 (io), 9 PIO0_3 (io), 10 PIO0_4 (io), 11 PIO0_5 (io), 12 PIO1_9 (io), 13 PIO3_4 (io), 14 PIO3_5 (io), 15 PIO0_6 (io), 16 PIO0_7 (io), 17 PIO0_8 (io), 18 PIO0_9 (io), 19 PIO0_10 (io), 20 PIO1_10 (io), 21 PIO0_11 (io), 22 PIO1_0 (io), 23 PIO1_1 (io), 24 PIO1_2 (io), 25 PIO1_3 (io), 26 PIO1_4 (io), 27 PIO1_11 (io), 28 PIO3_2 (io), 29 VDD (power), 30 PIO1_5 (io), 31 PIO1_6 (io), 32 PIO1_7 (io), 33 VSS (power)

## LPC1112JHN33-203
designator *  value LPC1112JHN33-203
ki_keywords: ARM, 32-bit, Cortex-M0, M0, NXP, microcontroller; ki_description: 32-bit ARM Cortex-M0 microcontroller, 16KB flash, 4KB SRAM; ki_fp_filters: *QFN*7x7mm*P0.65mm*; Footprint: Package_DFN_QFN:QFN-32-1EP_7x7mm_P0.65mm_EP4.7x4.7mm_ThermalVias; Supplier: https://www.nxp.com/documents/data_sheet/LPC111X.pdf
footprint QFN-32-1EP_7x7mm_P0.65mm_EP4.7x4.7mm_ThermalVias
pins: 1 PIO2_0 (io), 2 PIO0_0 (io), 3 PIO0_1 (io), 4 XTALIN (in), 5 XTALOUT (out), 6 VDD (power), 7 PIO1_8 (io), 8 PIO0_2 (io), 9 PIO0_3 (io), 10 PIO0_4 (io), 11 PIO0_5 (io), 12 PIO1_9 (io), 13 PIO3_4 (io), 14 PIO3_5 (io), 15 PIO0_6 (io), 16 PIO0_7 (io), 17 PIO0_8 (io), 18 PIO0_9 (io), 19 PIO0_10 (io), 20 PIO1_10 (io), 21 PIO0_11 (io), 22 PIO1_0 (io), 23 PIO1_1 (io), 24 PIO1_2 (io), 25 PIO1_3 (io), 26 PIO1_4 (io), 27 PIO1_11 (io), 28 PIO3_2 (io), 29 VDD (power), 30 PIO1_5 (io), 31 PIO1_6 (io), 32 PIO1_7 (io), 33 VSS (power)

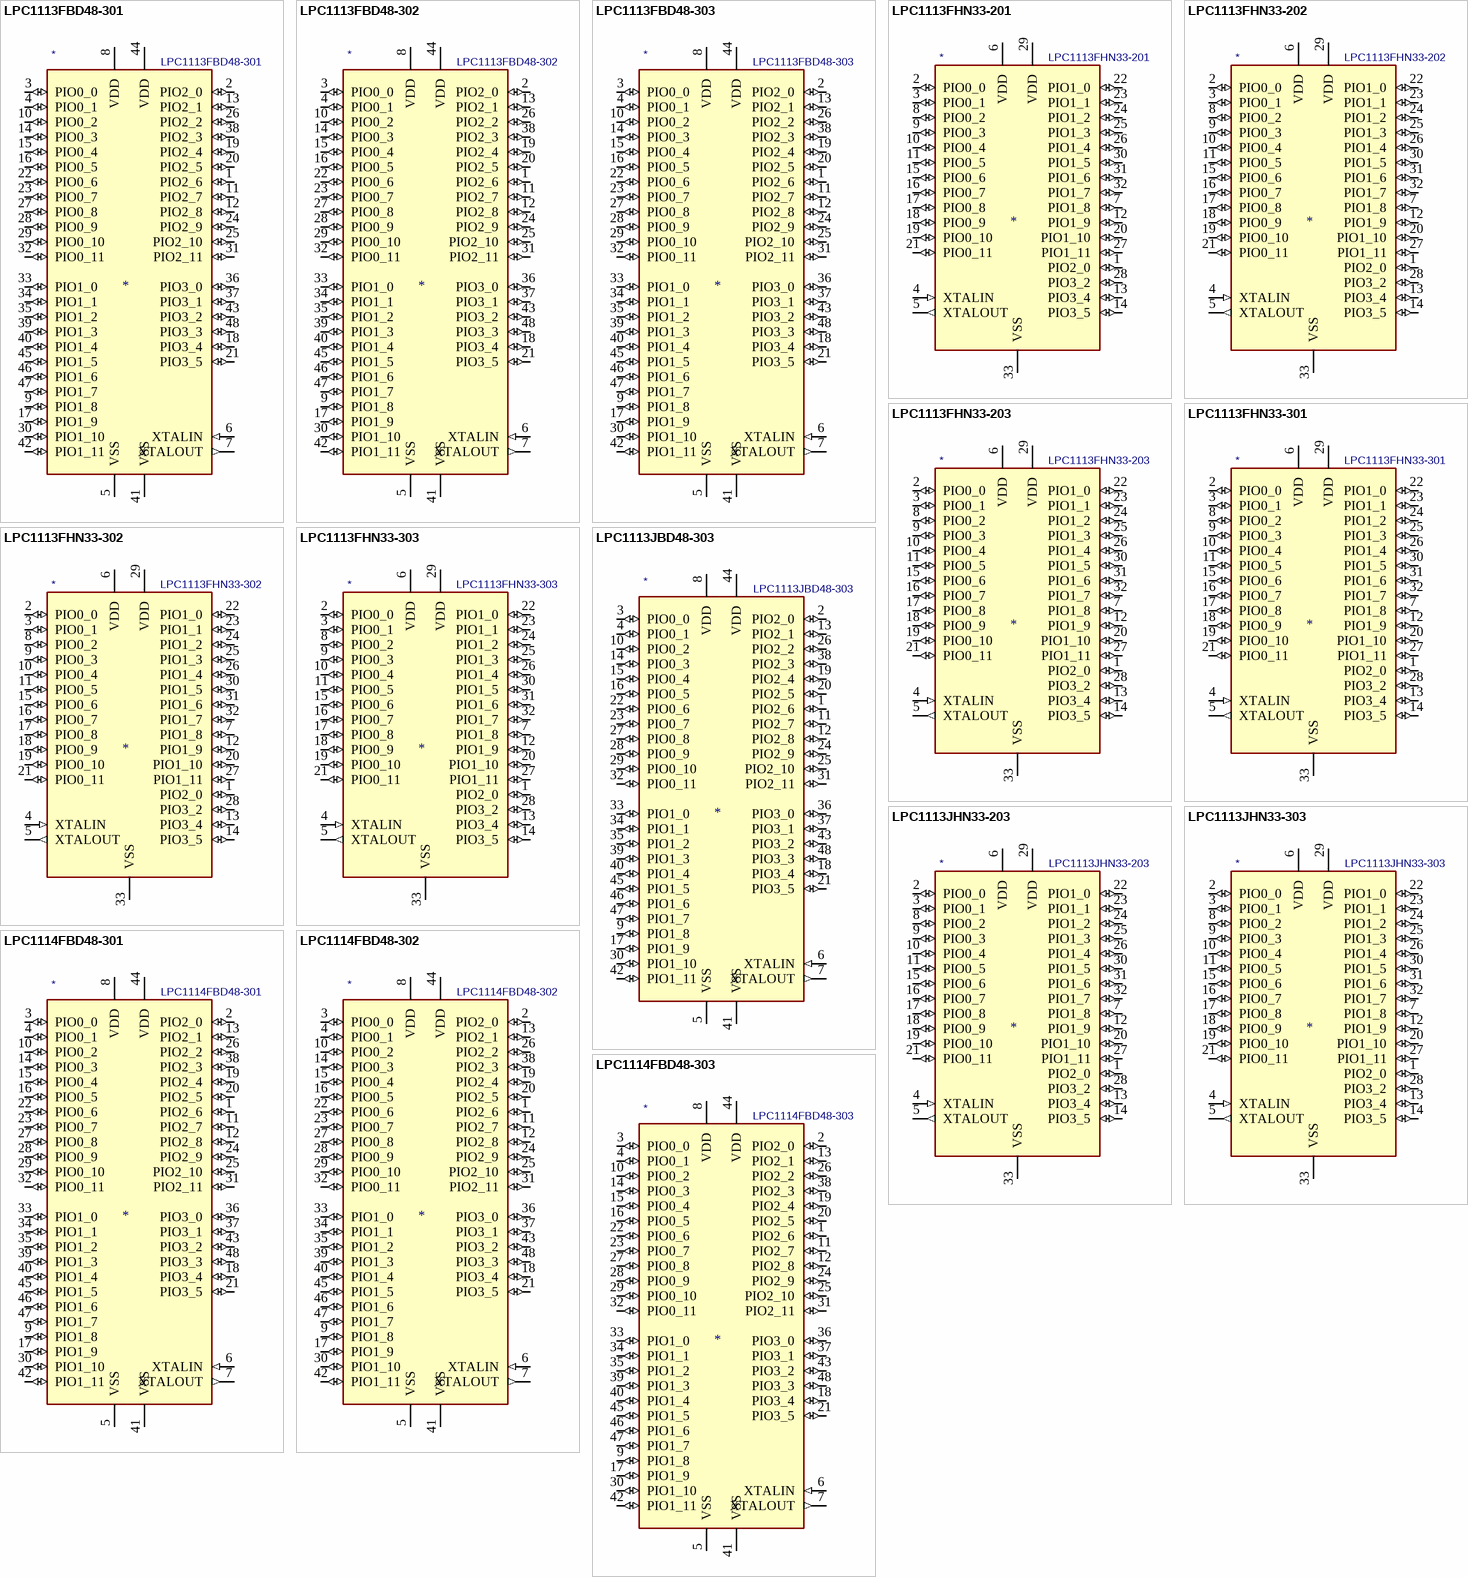
[diagram p3: symbols LPC1113FBD48-301 to LPC1114FBD48-303]

## LPC1113FBD48-301
designator *  value LPC1113FBD48-301
ki_keywords: ARM, 32-bit, Cortex-M0, M0, NXP, microcontroller; ki_description: 32-bit ARM Cortex-M0 microcontroller, 24KB flash, 8KB SRAM; ki_fp_filters: *QFP*7x7mm*P0.5mm*; Footprint: Package_QFP:LQFP-48_7x7mm_P0.5mm; Supplier: http://www.nxp.com/documents/data_sheet/LPC111X.pdf
footprint LQFP-48_7x7mm_P0.5mm
pins: 1 PIO2_6 (io), 2 PIO2_0 (io), 3 PIO0_0 (io), 4 PIO0_1 (io), 5 VSS (power), 6 XTALIN (in), 7 XTALOUT (out), 8 VDD (power), 9 PIO1_8 (io), 10 PIO0_2 (io), 11 PIO2_7 (io), 12 PIO2_8 (io), 13 PIO2_1 (io), 14 PIO0_3 (io), 15 PIO0_4 (io), 16 PIO0_5 (io), 17 PIO1_9 (io), 18 PIO3_4 (io), 19 PIO2_4 (io), 20 PIO2_5 (io), 21 PIO3_5 (io), 22 PIO0_6 (io), 23 PIO0_7 (io), 24 PIO2_9 (io), 25 PIO2_10 (io), 26 PIO2_2 (io), 27 PIO0_8 (io), 28 PIO0_9 (io), 29 PIO0_10 (io), 30 PIO1_10 (io), 31 PIO2_11 (io), 32 PIO0_11 (io), 33 PIO1_0 (io), 34 PIO1_1 (io), 35 PIO1_2 (io), 36 PIO3_0 (io), 37 PIO3_1 (io), 38 PIO2_3 (io), 39 PIO1_3 (io), 40 PIO1_4 (io), 41 VSS (power), 42 PIO1_11 (io), 43 PIO3_2 (io), 44 VDD (power), 45 PIO1_5 (io), 46 PIO1_6 (io), 47 PIO1_7 (io), 48 PIO3_3 (io)

## LPC1113FBD48-302
designator *  value LPC1113FBD48-302
ki_keywords: ARM, 32-bit, Cortex-M0, M0, NXP, microcontroller; ki_description: 32-bit ARM Cortex-M0 microcontroller, 24KB flash, 8KB SRAM, power profile; ki_fp_filters: *QFP*7x7mm*P0.5mm*; Footprint: Package_QFP:LQFP-48_7x7mm_P0.5mm; Supplier: http://www.nxp.com/documents/data_sheet/LPC111X.pdf
footprint LQFP-48_7x7mm_P0.5mm
pins: 1 PIO2_6 (io), 2 PIO2_0 (io), 3 PIO0_0 (io), 4 PIO0_1 (io), 5 VSS (power), 6 XTALIN (in), 7 XTALOUT (out), 8 VDD (power), 9 PIO1_8 (io), 10 PIO0_2 (io), 11 PIO2_7 (io), 12 PIO2_8 (io), 13 PIO2_1 (io), 14 PIO0_3 (io), 15 PIO0_4 (io), 16 PIO0_5 (io), 17 PIO1_9 (io), 18 PIO3_4 (io), 19 PIO2_4 (io), 20 PIO2_5 (io), 21 PIO3_5 (io), 22 PIO0_6 (io), 23 PIO0_7 (io), 24 PIO2_9 (io), 25 PIO2_10 (io), 26 PIO2_2 (io), 27 PIO0_8 (io), 28 PIO0_9 (io), 29 PIO0_10 (io), 30 PIO1_10 (io), 31 PIO2_11 (io), 32 PIO0_11 (io), 33 PIO1_0 (io), 34 PIO1_1 (io), 35 PIO1_2 (io), 36 PIO3_0 (io), 37 PIO3_1 (io), 38 PIO2_3 (io), 39 PIO1_3 (io), 40 PIO1_4 (io), 41 VSS (power), 42 PIO1_11 (io), 43 PIO3_2 (io), 44 VDD (power), 45 PIO1_5 (io), 46 PIO1_6 (io), 47 PIO1_7 (io), 48 PIO3_3 (io)